# Altium integrated library Renesas Microcontroller H8.IntLib: 489 symbols (part 21 of 25)
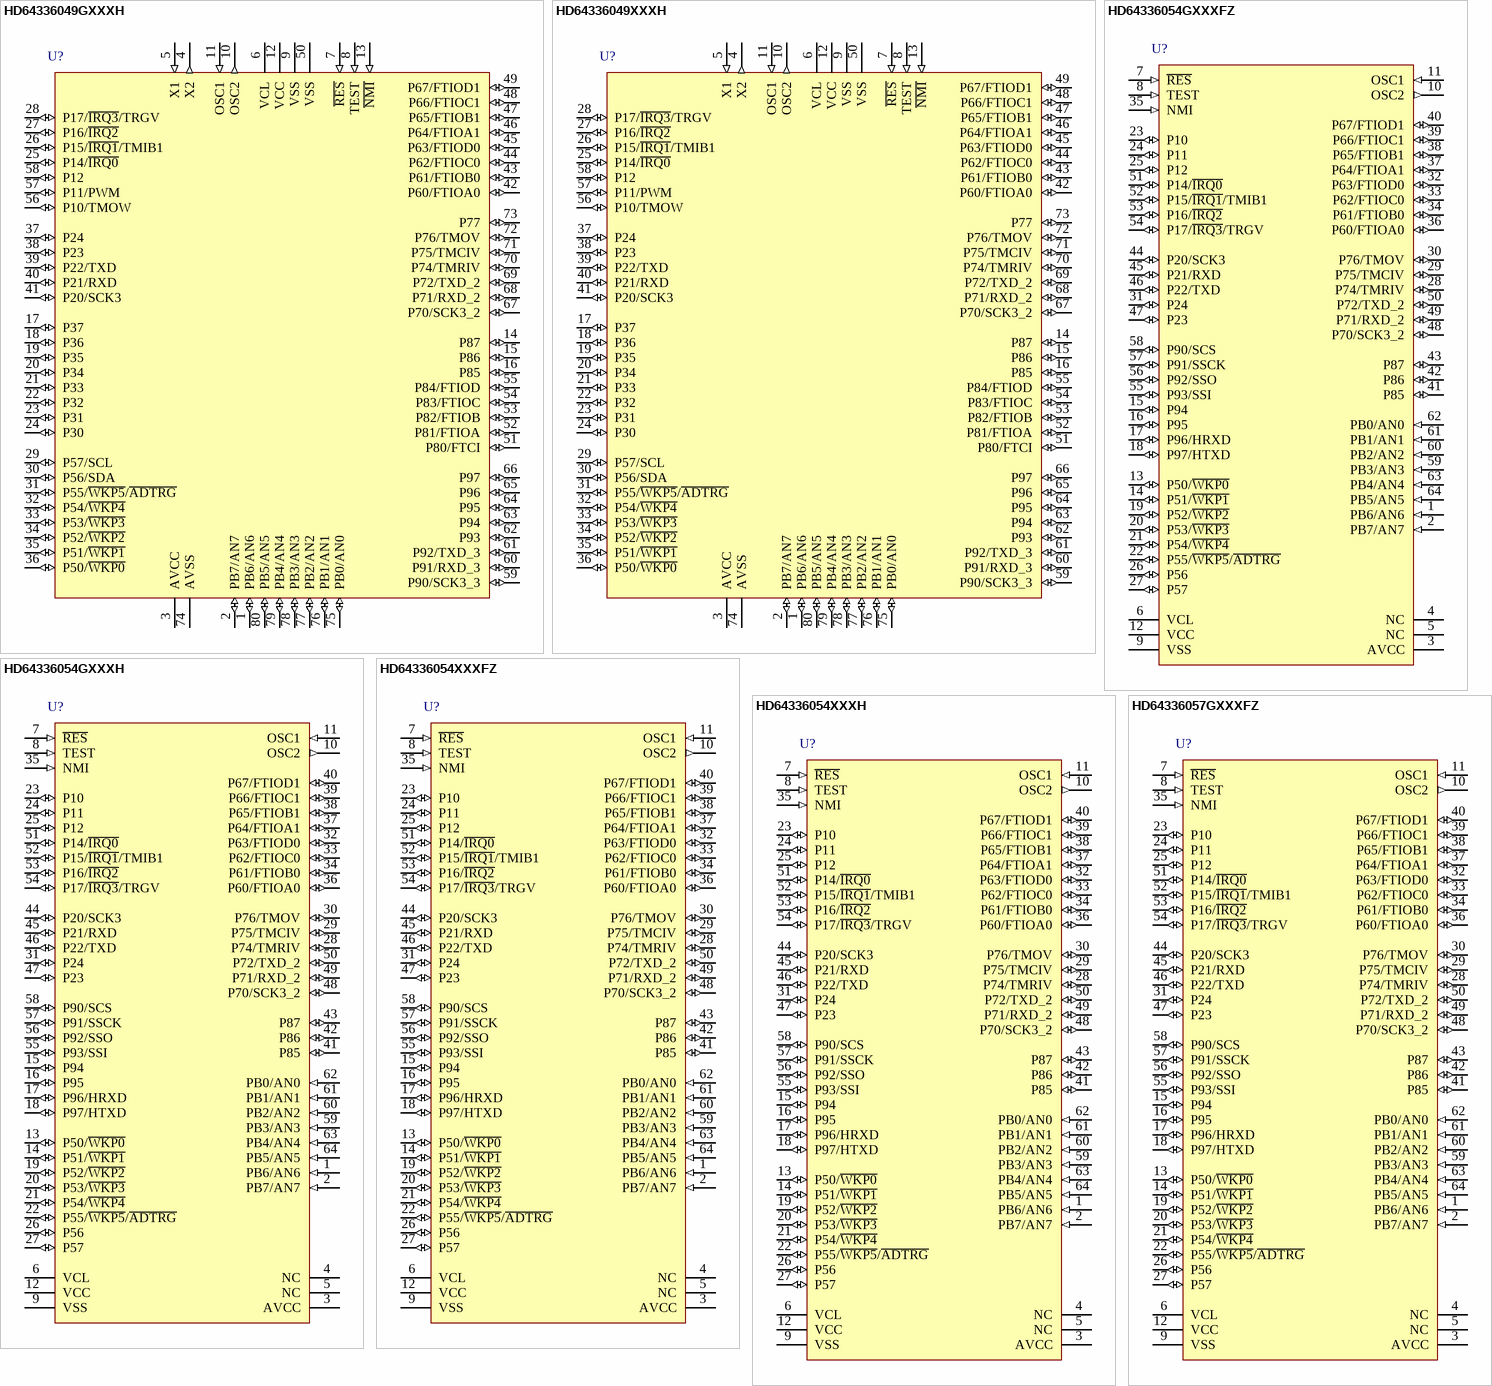
[diagram p108: symbols HD64336049GXXXH to HD64336057GXXXFZ]

## HD64336054GXXXH
designator U?
H8 Family 32/16-bit CISC, H8/300H Tiny, 32K ROM, 2K RAM, 1 to 10MHz, 2.7 to 5.5V, 64-Pin QFP; Published: 28-Aug-2009; DatasheetVersion: Rev.4.00, Mar-2006; PackageVersion: Sep-2005; PackageReference: PRQP0064GB-A; Publisher: Altium Limited; PackageDescription: 64-Pin Plastic Quad Flat Pack, 14 x 14 x 2.7 mm Body, 0.8 mm Pitch; Code_JEITA: P-QFP64-14x14-0.80; ComponentLink1Description: Manufacturer Link; ComponentLink1URL: http://sg.renesas.com/fmwk.jsp?cnt=h8_family_landing.jsp&fp=/products/mpumcu/h8_family/; ComponentLink2Description: Datasheet; ComponentLink2URL: http://documentation.renesas.com/eng/products/mpumcu/rej09b0026_h836057.pdf; ComponentLink3Description: Packaging Specification; ComponentLink3URL: http://sg.renesas.com/media/products/common_info/package/pdf/ic/code/prqp0064gb_a.pdf
footprint PRQP0064GB-A_N (QFP, 64-Leads, Body 14x14mm, Pitch 0.8mm, IPC Medium Density)
footprint PRQP0064GB-A_L (QFP, 64-Leads, Body 14x14mm, Pitch 0.8mm, IPC High Density)
footprint PRQP0064GB-A_M (QFP, 64-Leads, Body 14x14mm, Pitch 0.8mm, IPC Low Density)
pins: 1 PB6/AN6 (in), 2 PB7/AN7 (in), 3 AVCC (power), 4 NC, 5 NC, 6 VCL (power), 7 ~{RES} (in), 8 TEST (in), 9 VSS (power), 10 OSC2 (out), 11 OSC1 (in), 12 VCC (power), 13 P50/~{WKP0} (io), 14 P51/~{WKP1} (io), 15 P94 (io), 16 P95 (io), 17 P96/HRXD (io), 18 P97/HTXD (io), 19 P52/~{WKP2} (io), 20 P53/~{WKP3} (io), 21 P54/~{WKP4} (io), 22 P55/~{WKP5}/~{ADTRG} (io), 23 P10 (io), 24 P11 (io), 25 P12 (io), 26 P56 (io), 27 P57 (io), 28 P74/TMRIV (io), 29 P75/TMCIV (io), 30 P76/TMOV (io), 31 P24 (io), 32 P63/FTIOD0 (io), 33 P62/FTIOC0 (io), 34 P61/FTIOB0 (io), 35 NMI (in), 36 P60/FTIOA0 (io), 37 P64/FTIOA1 (io), 38 P65/FTIOB1 (io), 39 P66/FTIOC1 (io), 40 P67/FTIOD1 (io), 41 P85 (io), 42 P86 (io), 43 P87 (io), 44 P20/SCK3 (io), 45 P21/RXD (io), 46 P22/TXD (io), 47 P23 (io), 48 P70/SCK3_2 (io), 49 P71/RXD_2 (io), 50 P72/TXD_2 (io), 51 P14/~{IRQ0} (io), 52 P15/~{IRQ1}/TMIB1 (io), 53 P16/~{IRQ2} (io), 54 P17/~{IRQ3}/TRGV (io), 55 P93/SSI (io), 56 P92/SSO (io), 57 P91/SSCK (io), 58 P90/SCS (io), 59 PB3/AN3 (in), 60 PB2/AN2 (in), 61 PB1/AN1 (in), 62 PB0/AN0 (in), 63 PB4/AN4 (in), 64 PB5/AN5 (in)

## HD64336054XXXFZ
designator U?
H8 Family 32/16-bit CISC, H8/300H Tiny, 32K ROM, 2K RAM, 1 to 10MHz, 2.7 to 5.5V, 64-Pin QFP; Published: 28-Aug-2009; DatasheetVersion: Rev.4.00, Mar-2006; PackageVersion: Sep-2005; PackageReference: PLQP0064KB-A; Publisher: Altium Limited; PackageDescription: 64-Pin Plastic Low Profile QFP, 10 x 10 x 1.4 mm Body, 0.5 mm Pitch; Code_JEITA: P-LQFP64-10x10-0.50; Code_IPC: SQFP50P1200X1200-64; ComponentLink1Description: Manufacturer Link; ComponentLink1URL: http://sg.renesas.com/fmwk.jsp?cnt=h8_family_landing.jsp&fp=/products/mpumcu/h8_family/; ComponentLink2Description: Datasheet; ComponentLink2URL: http://documentation.renesas.com/eng/products/mpumcu/rej09b0026_h836057.pdf; ComponentLink3Description: Packaging Specification; ComponentLink3URL: http://sg.renesas.com/media/products/common_info/package/pdf/ic/code/plqp0064kb_a.pdf
footprint PLQP0064KB-A_N (Shrink QFP, 64-Leads, Body 10x10mm, Pitch 0.5mm, IPC Medium Density)
footprint PLQP0064KB-A_L (Shrink QFP, 64-Leads, Body 10x10mm, Pitch 0.5mm, IPC High Density)
footprint PLQP0064KB-A_M (Shrink QFP, 64-Leads, Body 10x10mm, Pitch 0.5mm, IPC Low Density)
pins: 1 PB6/AN6 (in), 2 PB7/AN7 (in), 3 AVCC (power), 4 NC, 5 NC, 6 VCL (power), 7 ~{RES} (in), 8 TEST (in), 9 VSS (power), 10 OSC2 (out), 11 OSC1 (in), 12 VCC (power), 13 P50/~{WKP0} (io), 14 P51/~{WKP1} (io), 15 P94 (io), 16 P95 (io), 17 P96/HRXD (io), 18 P97/HTXD (io), 19 P52/~{WKP2} (io), 20 P53/~{WKP3} (io), 21 P54/~{WKP4} (io), 22 P55/~{WKP5}/~{ADTRG} (io), 23 P10 (io), 24 P11 (io), 25 P12 (io), 26 P56 (io), 27 P57 (io), 28 P74/TMRIV (io), 29 P75/TMCIV (io), 30 P76/TMOV (io), 31 P24 (io), 32 P63/FTIOD0 (io), 33 P62/FTIOC0 (io), 34 P61/FTIOB0 (io), 35 NMI (in), 36 P60/FTIOA0 (io), 37 P64/FTIOA1 (io), 38 P65/FTIOB1 (io), 39 P66/FTIOC1 (io), 40 P67/FTIOD1 (io), 41 P85 (io), 42 P86 (io), 43 P87 (io), 44 P20/SCK3 (io), 45 P21/RXD (io), 46 P22/TXD (io), 47 P23 (io), 48 P70/SCK3_2 (io), 49 P71/RXD_2 (io), 50 P72/TXD_2 (io), 51 P14/~{IRQ0} (io), 52 P15/~{IRQ1}/TMIB1 (io), 53 P16/~{IRQ2} (io), 54 P17/~{IRQ3}/TRGV (io), 55 P93/SSI (io), 56 P92/SSO (io), 57 P91/SSCK (io), 58 P90/SCS (io), 59 PB3/AN3 (in), 60 PB2/AN2 (in), 61 PB1/AN1 (in), 62 PB0/AN0 (in), 63 PB4/AN4 (in), 64 PB5/AN5 (in)

## HD64336054XXXH
designator U?
H8 Family 32/16-bit CISC, H8/300H Tiny, 32K ROM, 2K RAM, 1 to 10MHz, 2.7 to 5.5V, 64-Pin QFP; Published: 28-Aug-2009; DatasheetVersion: Rev.4.00, Mar-2006; PackageVersion: Sep-2005; PackageReference: PRQP0064GB-A; Publisher: Altium Limited; PackageDescription: 64-Pin Plastic Quad Flat Pack, 14 x 14 x 2.7 mm Body, 0.8 mm Pitch; Code_JEITA: P-QFP64-14x14-0.80; ComponentLink1Description: Manufacturer Link; ComponentLink1URL: http://sg.renesas.com/fmwk.jsp?cnt=h8_family_landing.jsp&fp=/products/mpumcu/h8_family/; ComponentLink2Description: Datasheet; ComponentLink2URL: http://documentation.renesas.com/eng/products/mpumcu/rej09b0026_h836057.pdf; ComponentLink3Description: Packaging Specification; ComponentLink3URL: http://sg.renesas.com/media/products/common_info/package/pdf/ic/code/prqp0064gb_a.pdf
footprint PRQP0064GB-A_N (QFP, 64-Leads, Body 14x14mm, Pitch 0.8mm, IPC Medium Density)
footprint PRQP0064GB-A_L (QFP, 64-Leads, Body 14x14mm, Pitch 0.8mm, IPC High Density)
footprint PRQP0064GB-A_M (QFP, 64-Leads, Body 14x14mm, Pitch 0.8mm, IPC Low Density)
pins: 1 PB6/AN6 (in), 2 PB7/AN7 (in), 3 AVCC (power), 4 NC, 5 NC, 6 VCL (power), 7 ~{RES} (in), 8 TEST (in), 9 VSS (power), 10 OSC2 (out), 11 OSC1 (in), 12 VCC (power), 13 P50/~{WKP0} (io), 14 P51/~{WKP1} (io), 15 P94 (io), 16 P95 (io), 17 P96/HRXD (io), 18 P97/HTXD (io), 19 P52/~{WKP2} (io), 20 P53/~{WKP3} (io), 21 P54/~{WKP4} (io), 22 P55/~{WKP5}/~{ADTRG} (io), 23 P10 (io), 24 P11 (io), 25 P12 (io), 26 P56 (io), 27 P57 (io), 28 P74/TMRIV (io), 29 P75/TMCIV (io), 30 P76/TMOV (io), 31 P24 (io), 32 P63/FTIOD0 (io), 33 P62/FTIOC0 (io), 34 P61/FTIOB0 (io), 35 NMI (in), 36 P60/FTIOA0 (io), 37 P64/FTIOA1 (io), 38 P65/FTIOB1 (io), 39 P66/FTIOC1 (io), 40 P67/FTIOD1 (io), 41 P85 (io), 42 P86 (io), 43 P87 (io), 44 P20/SCK3 (io), 45 P21/RXD (io), 46 P22/TXD (io), 47 P23 (io), 48 P70/SCK3_2 (io), 49 P71/RXD_2 (io), 50 P72/TXD_2 (io), 51 P14/~{IRQ0} (io), 52 P15/~{IRQ1}/TMIB1 (io), 53 P16/~{IRQ2} (io), 54 P17/~{IRQ3}/TRGV (io), 55 P93/SSI (io), 56 P92/SSO (io), 57 P91/SSCK (io), 58 P90/SCS (io), 59 PB3/AN3 (in), 60 PB2/AN2 (in), 61 PB1/AN1 (in), 62 PB0/AN0 (in), 63 PB4/AN4 (in), 64 PB5/AN5 (in)

## HD64336057GXXXFZ
designator U?
H8 Family 32/16-bit CISC, H8/300H Tiny, 56K ROM, 2K RAM, 1 to 10MHz, 2.7 to 5.5V, 64-Pin QFP; Published: 28-Aug-2009; DatasheetVersion: Rev.4.00, Mar-2006; PackageVersion: Sep-2005; PackageReference: PLQP0064KB-A; Publisher: Altium Limited; PackageDescription: 64-Pin Plastic Low Profile QFP, 10 x 10 x 1.4 mm Body, 0.5 mm Pitch; Code_JEITA: P-LQFP64-10x10-0.50; Code_IPC: SQFP50P1200X1200-64; ComponentLink1Description: Manufacturer Link; ComponentLink1URL: http://sg.renesas.com/fmwk.jsp?cnt=h8_family_landing.jsp&fp=/products/mpumcu/h8_family/; ComponentLink2Description: Datasheet; ComponentLink2URL: http://documentation.renesas.com/eng/products/mpumcu/rej09b0026_h836057.pdf; ComponentLink3Description: Packaging Specification; ComponentLink3URL: http://sg.renesas.com/media/products/common_info/package/pdf/ic/code/plqp0064kb_a.pdf
footprint PLQP0064KB-A_N (Shrink QFP, 64-Leads, Body 10x10mm, Pitch 0.5mm, IPC Medium Density)
footprint PLQP0064KB-A_L (Shrink QFP, 64-Leads, Body 10x10mm, Pitch 0.5mm, IPC High Density)
footprint PLQP0064KB-A_M (Shrink QFP, 64-Leads, Body 10x10mm, Pitch 0.5mm, IPC Low Density)
pins: 1 PB6/AN6 (in), 2 PB7/AN7 (in), 3 AVCC (power), 4 NC, 5 NC, 6 VCL (power), 7 ~{RES} (in), 8 TEST (in), 9 VSS (power), 10 OSC2 (out), 11 OSC1 (in), 12 VCC (power), 13 P50/~{WKP0} (io), 14 P51/~{WKP1} (io), 15 P94 (io), 16 P95 (io), 17 P96/HRXD (io), 18 P97/HTXD (io), 19 P52/~{WKP2} (io), 20 P53/~{WKP3} (io), 21 P54/~{WKP4} (io), 22 P55/~{WKP5}/~{ADTRG} (io), 23 P10 (io), 24 P11 (io), 25 P12 (io), 26 P56 (io), 27 P57 (io), 28 P74/TMRIV (io), 29 P75/TMCIV (io), 30 P76/TMOV (io), 31 P24 (io), 32 P63/FTIOD0 (io), 33 P62/FTIOC0 (io), 34 P61/FTIOB0 (io), 35 NMI (in), 36 P60/FTIOA0 (io), 37 P64/FTIOA1 (io), 38 P65/FTIOB1 (io), 39 P66/FTIOC1 (io), 40 P67/FTIOD1 (io), 41 P85 (io), 42 P86 (io), 43 P87 (io), 44 P20/SCK3 (io), 45 P21/RXD (io), 46 P22/TXD (io), 47 P23 (io), 48 P70/SCK3_2 (io), 49 P71/RXD_2 (io), 50 P72/TXD_2 (io), 51 P14/~{IRQ0} (io), 52 P15/~{IRQ1}/TMIB1 (io), 53 P16/~{IRQ2} (io), 54 P17/~{IRQ3}/TRGV (io), 55 P93/SSI (io), 56 P92/SSO (io), 57 P91/SSCK (io), 58 P90/SCS (io), 59 PB3/AN3 (in), 60 PB2/AN2 (in), 61 PB1/AN1 (in), 62 PB0/AN0 (in), 63 PB4/AN4 (in), 64 PB5/AN5 (in)

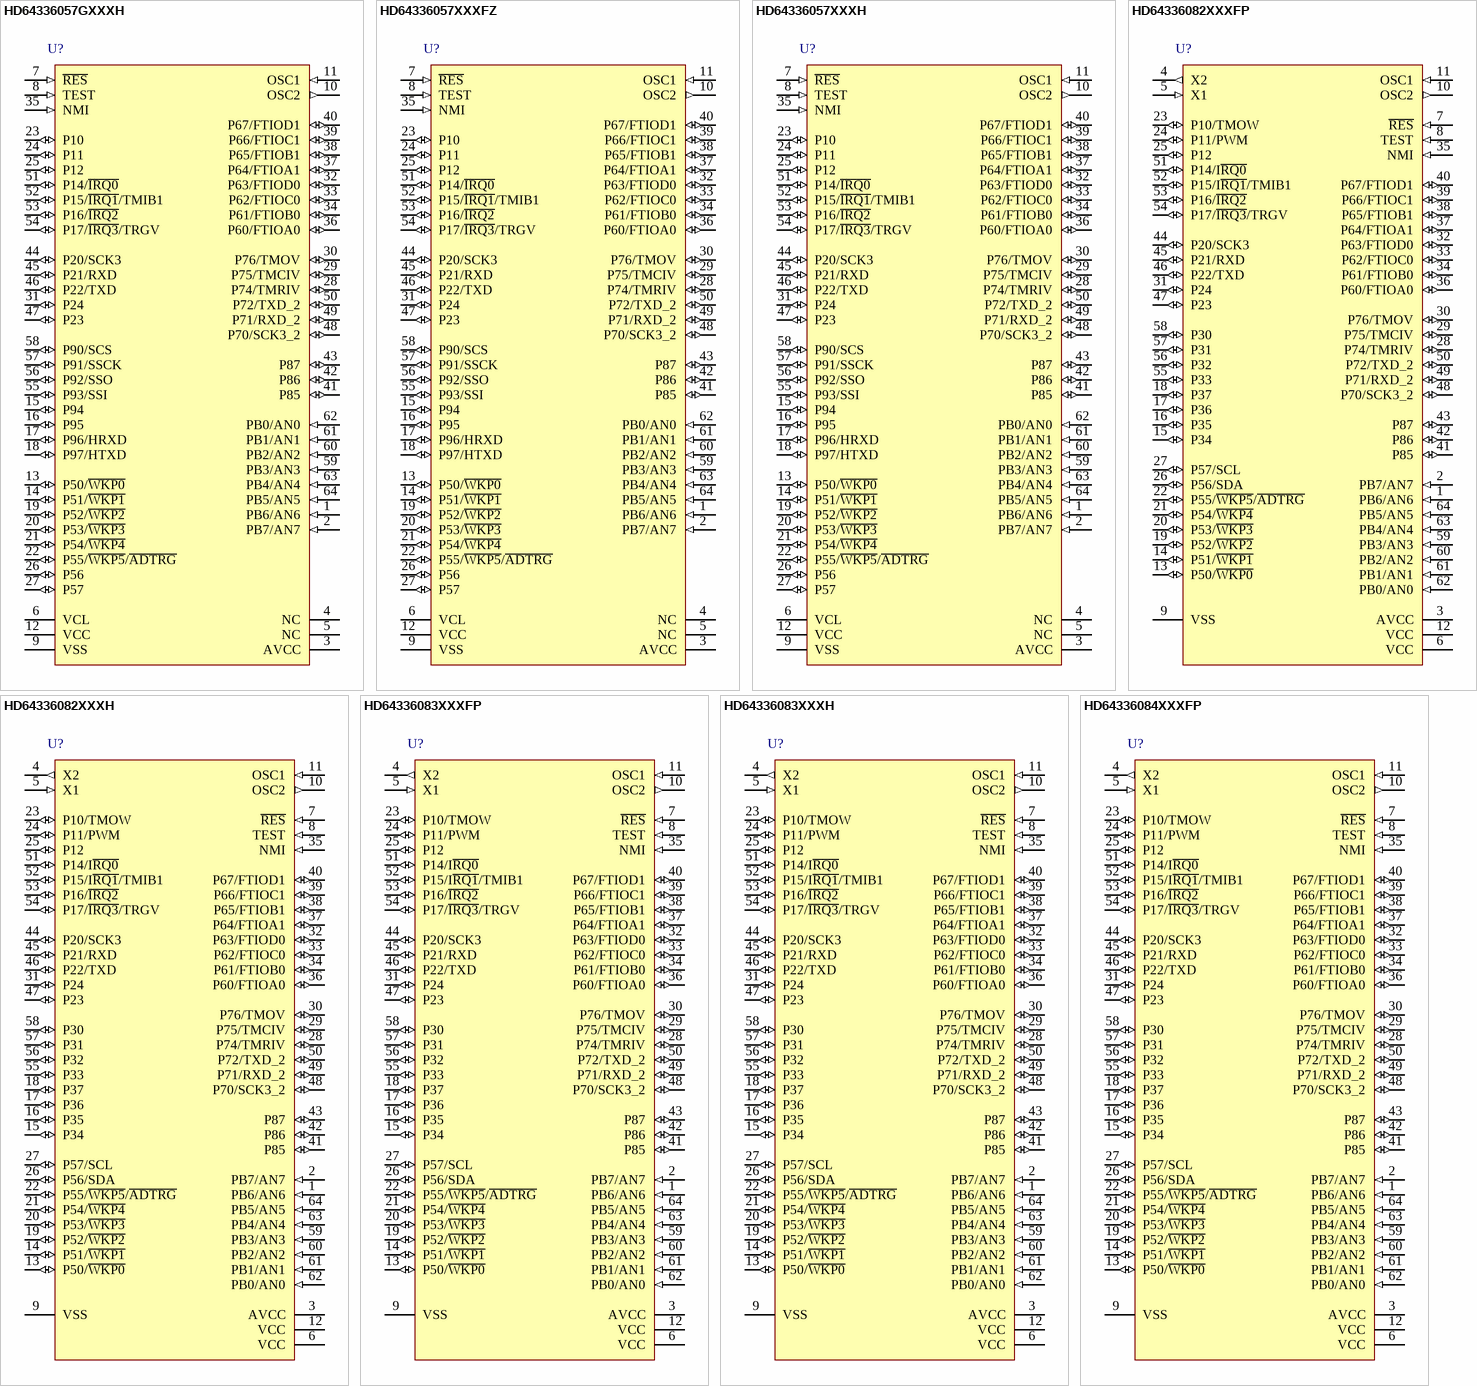
[diagram p73: symbols HD64336057GXXXH to HD64336084XXXFP]

## HD64336057GXXXH
designator U?
H8 Family 32/16-bit CISC, H8/300H Tiny, 56K ROM, 2K RAM, 1 to 10MHz, 2.7 to 5.5V, 64-Pin QFP; Published: 28-Aug-2009; DatasheetVersion: Rev.4.00, Mar-2006; PackageVersion: Sep-2005; PackageReference: PRQP0064GB-A; Publisher: Altium Limited; PackageDescription: 64-Pin Plastic Quad Flat Pack, 14 x 14 x 2.7 mm Body, 0.8 mm Pitch; Code_JEITA: P-QFP64-14x14-0.80; ComponentLink1Description: Manufacturer Link; ComponentLink1URL: http://sg.renesas.com/fmwk.jsp?cnt=h8_family_landing.jsp&fp=/products/mpumcu/h8_family/; ComponentLink2Description: Datasheet; ComponentLink2URL: http://documentation.renesas.com/eng/products/mpumcu/rej09b0026_h836057.pdf; ComponentLink3Description: Packaging Specification; ComponentLink3URL: http://sg.renesas.com/media/products/common_info/package/pdf/ic/code/prqp0064gb_a.pdf
footprint PRQP0064GB-A_N (QFP, 64-Leads, Body 14x14mm, Pitch 0.8mm, IPC Medium Density)
footprint PRQP0064GB-A_L (QFP, 64-Leads, Body 14x14mm, Pitch 0.8mm, IPC High Density)
footprint PRQP0064GB-A_M (QFP, 64-Leads, Body 14x14mm, Pitch 0.8mm, IPC Low Density)
pins: 1 PB6/AN6 (in), 2 PB7/AN7 (in), 3 AVCC (power), 4 NC, 5 NC, 6 VCL (power), 7 ~{RES} (in), 8 TEST (in), 9 VSS (power), 10 OSC2 (out), 11 OSC1 (in), 12 VCC (power), 13 P50/~{WKP0} (io), 14 P51/~{WKP1} (io), 15 P94 (io), 16 P95 (io), 17 P96/HRXD (io), 18 P97/HTXD (io), 19 P52/~{WKP2} (io), 20 P53/~{WKP3} (io), 21 P54/~{WKP4} (io), 22 P55/~{WKP5}/~{ADTRG} (io), 23 P10 (io), 24 P11 (io), 25 P12 (io), 26 P56 (io), 27 P57 (io), 28 P74/TMRIV (io), 29 P75/TMCIV (io), 30 P76/TMOV (io), 31 P24 (io), 32 P63/FTIOD0 (io), 33 P62/FTIOC0 (io), 34 P61/FTIOB0 (io), 35 NMI (in), 36 P60/FTIOA0 (io), 37 P64/FTIOA1 (io), 38 P65/FTIOB1 (io), 39 P66/FTIOC1 (io), 40 P67/FTIOD1 (io), 41 P85 (io), 42 P86 (io), 43 P87 (io), 44 P20/SCK3 (io), 45 P21/RXD (io), 46 P22/TXD (io), 47 P23 (io), 48 P70/SCK3_2 (io), 49 P71/RXD_2 (io), 50 P72/TXD_2 (io), 51 P14/~{IRQ0} (io), 52 P15/~{IRQ1}/TMIB1 (io), 53 P16/~{IRQ2} (io), 54 P17/~{IRQ3}/TRGV (io), 55 P93/SSI (io), 56 P92/SSO (io), 57 P91/SSCK (io), 58 P90/SCS (io), 59 PB3/AN3 (in), 60 PB2/AN2 (in), 61 PB1/AN1 (in), 62 PB0/AN0 (in), 63 PB4/AN4 (in), 64 PB5/AN5 (in)

## HD64336057XXXFZ
designator U?
H8 Family 32/16-bit CISC, H8/300H Tiny, 56K ROM, 2K RAM, 1 to 10MHz, 2.7 to 5.5V, 64-Pin QFP; Published: 28-Aug-2009; DatasheetVersion: Rev.4.00, Mar-2006; PackageVersion: Sep-2005; PackageReference: PLQP0064KB-A; Publisher: Altium Limited; PackageDescription: 64-Pin Plastic Low Profile QFP, 10 x 10 x 1.4 mm Body, 0.5 mm Pitch; Code_JEITA: P-LQFP64-10x10-0.50; Code_IPC: SQFP50P1200X1200-64; ComponentLink1Description: Manufacturer Link; ComponentLink1URL: http://sg.renesas.com/fmwk.jsp?cnt=h8_family_landing.jsp&fp=/products/mpumcu/h8_family/; ComponentLink2Description: Datasheet; ComponentLink2URL: http://documentation.renesas.com/eng/products/mpumcu/rej09b0026_h836057.pdf; ComponentLink3Description: Packaging Specification; ComponentLink3URL: http://sg.renesas.com/media/products/common_info/package/pdf/ic/code/plqp0064kb_a.pdf
footprint PLQP0064KB-A_N (Shrink QFP, 64-Leads, Body 10x10mm, Pitch 0.5mm, IPC Medium Density)
footprint PLQP0064KB-A_L (Shrink QFP, 64-Leads, Body 10x10mm, Pitch 0.5mm, IPC High Density)
footprint PLQP0064KB-A_M (Shrink QFP, 64-Leads, Body 10x10mm, Pitch 0.5mm, IPC Low Density)
pins: 1 PB6/AN6 (in), 2 PB7/AN7 (in), 3 AVCC (power), 4 NC, 5 NC, 6 VCL (power), 7 ~{RES} (in), 8 TEST (in), 9 VSS (power), 10 OSC2 (out), 11 OSC1 (in), 12 VCC (power), 13 P50/~{WKP0} (io), 14 P51/~{WKP1} (io), 15 P94 (io), 16 P95 (io), 17 P96/HRXD (io), 18 P97/HTXD (io), 19 P52/~{WKP2} (io), 20 P53/~{WKP3} (io), 21 P54/~{WKP4} (io), 22 P55/~{WKP5}/~{ADTRG} (io), 23 P10 (io), 24 P11 (io), 25 P12 (io), 26 P56 (io), 27 P57 (io), 28 P74/TMRIV (io), 29 P75/TMCIV (io), 30 P76/TMOV (io), 31 P24 (io), 32 P63/FTIOD0 (io), 33 P62/FTIOC0 (io), 34 P61/FTIOB0 (io), 35 NMI (in), 36 P60/FTIOA0 (io), 37 P64/FTIOA1 (io), 38 P65/FTIOB1 (io), 39 P66/FTIOC1 (io), 40 P67/FTIOD1 (io), 41 P85 (io), 42 P86 (io), 43 P87 (io), 44 P20/SCK3 (io), 45 P21/RXD (io), 46 P22/TXD (io), 47 P23 (io), 48 P70/SCK3_2 (io), 49 P71/RXD_2 (io), 50 P72/TXD_2 (io), 51 P14/~{IRQ0} (io), 52 P15/~{IRQ1}/TMIB1 (io), 53 P16/~{IRQ2} (io), 54 P17/~{IRQ3}/TRGV (io), 55 P93/SSI (io), 56 P92/SSO (io), 57 P91/SSCK (io), 58 P90/SCS (io), 59 PB3/AN3 (in), 60 PB2/AN2 (in), 61 PB1/AN1 (in), 62 PB0/AN0 (in), 63 PB4/AN4 (in), 64 PB5/AN5 (in)

## HD64336057XXXH
designator U?
H8 Family 32/16-bit CISC, H8/300H Tiny, 56K ROM, 2K RAM, 1 to 10MHz, 2.7 to 5.5V, 64-Pin QFP; Published: 28-Aug-2009; DatasheetVersion: Rev.4.00, Mar-2006; PackageVersion: Sep-2005; PackageReference: PRQP0064GB-A; Publisher: Altium Limited; PackageDescription: 64-Pin Plastic Quad Flat Pack, 14 x 14 x 2.7 mm Body, 0.8 mm Pitch; Code_JEITA: P-QFP64-14x14-0.80; ComponentLink1Description: Manufacturer Link; ComponentLink1URL: http://sg.renesas.com/fmwk.jsp?cnt=h8_family_landing.jsp&fp=/products/mpumcu/h8_family/; ComponentLink2Description: Datasheet; ComponentLink2URL: http://documentation.renesas.com/eng/products/mpumcu/rej09b0026_h836057.pdf; ComponentLink3Description: Packaging Specification; ComponentLink3URL: http://sg.renesas.com/media/products/common_info/package/pdf/ic/code/prqp0064gb_a.pdf
footprint PRQP0064GB-A_N (QFP, 64-Leads, Body 14x14mm, Pitch 0.8mm, IPC Medium Density)
footprint PRQP0064GB-A_L (QFP, 64-Leads, Body 14x14mm, Pitch 0.8mm, IPC High Density)
footprint PRQP0064GB-A_M (QFP, 64-Leads, Body 14x14mm, Pitch 0.8mm, IPC Low Density)
pins: 1 PB6/AN6 (in), 2 PB7/AN7 (in), 3 AVCC (power), 4 NC, 5 NC, 6 VCL (power), 7 ~{RES} (in), 8 TEST (in), 9 VSS (power), 10 OSC2 (out), 11 OSC1 (in), 12 VCC (power), 13 P50/~{WKP0} (io), 14 P51/~{WKP1} (io), 15 P94 (io), 16 P95 (io), 17 P96/HRXD (io), 18 P97/HTXD (io), 19 P52/~{WKP2} (io), 20 P53/~{WKP3} (io), 21 P54/~{WKP4} (io), 22 P55/~{WKP5}/~{ADTRG} (io), 23 P10 (io), 24 P11 (io), 25 P12 (io), 26 P56 (io), 27 P57 (io), 28 P74/TMRIV (io), 29 P75/TMCIV (io), 30 P76/TMOV (io), 31 P24 (io), 32 P63/FTIOD0 (io), 33 P62/FTIOC0 (io), 34 P61/FTIOB0 (io), 35 NMI (in), 36 P60/FTIOA0 (io), 37 P64/FTIOA1 (io), 38 P65/FTIOB1 (io), 39 P66/FTIOC1 (io), 40 P67/FTIOD1 (io), 41 P85 (io), 42 P86 (io), 43 P87 (io), 44 P20/SCK3 (io), 45 P21/RXD (io), 46 P22/TXD (io), 47 P23 (io), 48 P70/SCK3_2 (io), 49 P71/RXD_2 (io), 50 P72/TXD_2 (io), 51 P14/~{IRQ0} (io), 52 P15/~{IRQ1}/TMIB1 (io), 53 P16/~{IRQ2} (io), 54 P17/~{IRQ3}/TRGV (io), 55 P93/SSI (io), 56 P92/SSO (io), 57 P91/SSCK (io), 58 P90/SCS (io), 59 PB3/AN3 (in), 60 PB2/AN2 (in), 61 PB1/AN1 (in), 62 PB0/AN0 (in), 63 PB4/AN4 (in), 64 PB5/AN5 (in)

## HD64336082XXXFP
designator U?
H8 Family 32/16-bit CISC, H8/300H Tiny, 16K ROM, 3K RAM, 4 to 18MHz, 3.0 to 3.6V, 64-Pin QFP; Published: 28-Aug-2009; DatasheetVersion: Rev.2.00, Sep-2005; PackageVersion: Sep-2005; PackageReference: PLQP0064KC-A; Publisher: Altium Limited; PackageDescription: 64-Pin Plastic Low Profile QFP, 10 x 10 x 1.45 mm Body, 0.5 mm Pitch; Code_JEITA: P-LQFP64-10x10-0.50; Code_IPC: SQFP50P1200X1200-64; ComponentLink1Description: Manufacturer Link; ComponentLink1URL: http://sg.renesas.com/fmwk.jsp?cnt=h8_family_landing.jsp&fp=/products/mpumcu/h8_family/; ComponentLink2Description: Datasheet; ComponentLink2URL: http://documentation.renesas.com/eng/products/mpumcu/rej09b0160_h836087.pdf; ComponentLink3Description: Packaging Specification; ComponentLink3URL: http://sg.renesas.com/media/products/common_info/package/pdf/ic/code/plqp0064kc_a.pdf
footprint PLQP0064KC-A_N (Shrink QFP, 64-Leads, Body 10x10mm, Pitch 0.5mm, IPC Medium Density)
footprint PLQP0064KC-A_L (Shrink QFP, 64-Leads, Body 10x10mm, Pitch 0.5mm, IPC High Density)
footprint PLQP0064KC-A_M (Shrink QFP, 64-Leads, Body 10x10mm, Pitch 0.5mm, IPC Low Density)
pins: 1 PB6/AN6 (in), 2 PB7/AN7 (in), 3 AVCC (power), 4 X2 (out), 5 X1 (in), 6 VCC (power), 7 ~{RES} (in), 8 TEST (in), 9 VSS (power), 10 OSC2 (out), 11 OSC1 (in), 12 VCC (power), 13 P50/~{WKP0} (io), 14 P51/~{WKP1} (io), 15 P34 (io), 16 P35 (io), 17 P36 (io), 18 P37 (io), 19 P52/~{WKP2} (io), 20 P53/~{WKP3} (io), 21 P54/~{WKP4} (io), 22 P55/~{WKP5}/~{ADTRG} (io), 23 P10/TMOW (io), 24 P11/PWM (io), 25 P12 (io), 26 P56/SDA (io), 27 P57/SCL (io), 28 P74/TMRIV (io), 29 P75/TMCIV (io), 30 P76/TMOV (io), 31 P24 (io), 32 P63/FTIOD0 (io), 33 P62/FTIOC0 (io), 34 P61/FTIOB0 (io), 35 NMI (in), 36 P60/FTIOA0 (io), 37 P64/FTIOA1 (io), 38 P65/FTIOB1 (io), 39 P66/FTIOC1 (io), 40 P67/FTIOD1 (io), 41 P85 (io), 42 P86 (io), 43 P87 (io), 44 P20/SCK3 (io), 45 P21/RXD (io), 46 P22/TXD (io), 47 P23 (io), 48 P70/SCK3_2 (io), 49 P71/RXD_2 (io), 50 P72/TXD_2 (io), 51 P14/I~{RQ0} (io), 52 P15/I~{RQ1}/TMIB1 (io), 53 P16/~{IRQ2} (io), 54 P17/~{IRQ3}/TRGV (io), 55 P33 (io), 56 P32 (io), 57 P31 (io), 58 P30 (io), 59 PB3/AN3 (in), 60 PB2/AN2 (in), 61 PB1/AN1 (in), 62 PB0/AN0 (in), 63 PB4/AN4 (in), 64 PB5/AN5 (in)

## HD64336082XXXH
designator U?
H8 Family 32/16-bit CISC, H8/300H Tiny, 16K ROM, 3K RAM, 4 to 18MHz, 3.0 to 3.6V, 64-Pin QFP; Published: 28-Aug-2009; DatasheetVersion: Rev.2.00, Sep-2005; PackageVersion: Sep-2005; PackageReference: PRQP0064GB-A; Publisher: Altium Limited; PackageDescription: 64-Pin Plastic Quad Flat Pack, 14 x 14 x 2.7 mm Body, 0.8 mm Pitch; Code_JEITA: P-QFP64-14x14-0.80; ComponentLink1Description: Manufacturer Link; ComponentLink1URL: http://sg.renesas.com/fmwk.jsp?cnt=h8_family_landing.jsp&fp=/products/mpumcu/h8_family/; ComponentLink2Description: Datasheet; ComponentLink2URL: http://documentation.renesas.com/eng/products/mpumcu/rej09b0160_h836087.pdf; ComponentLink3Description: Packaging Specification; ComponentLink3URL: http://sg.renesas.com/media/products/common_info/package/pdf/ic/code/prqp0064gb_a.pdf
footprint PRQP0064GB-A_N (QFP, 64-Leads, Body 14x14mm, Pitch 0.8mm, IPC Medium Density)
footprint PRQP0064GB-A_L (QFP, 64-Leads, Body 14x14mm, Pitch 0.8mm, IPC High Density)
footprint PRQP0064GB-A_M (QFP, 64-Leads, Body 14x14mm, Pitch 0.8mm, IPC Low Density)
pins: 1 PB6/AN6 (in), 2 PB7/AN7 (in), 3 AVCC (power), 4 X2 (out), 5 X1 (in), 6 VCC (power), 7 ~{RES} (in), 8 TEST (in), 9 VSS (power), 10 OSC2 (out), 11 OSC1 (in), 12 VCC (power), 13 P50/~{WKP0} (io), 14 P51/~{WKP1} (io), 15 P34 (io), 16 P35 (io), 17 P36 (io), 18 P37 (io), 19 P52/~{WKP2} (io), 20 P53/~{WKP3} (io), 21 P54/~{WKP4} (io), 22 P55/~{WKP5}/~{ADTRG} (io), 23 P10/TMOW (io), 24 P11/PWM (io), 25 P12 (io), 26 P56/SDA (io), 27 P57/SCL (io), 28 P74/TMRIV (io), 29 P75/TMCIV (io), 30 P76/TMOV (io), 31 P24 (io), 32 P63/FTIOD0 (io), 33 P62/FTIOC0 (io), 34 P61/FTIOB0 (io), 35 NMI (in), 36 P60/FTIOA0 (io), 37 P64/FTIOA1 (io), 38 P65/FTIOB1 (io), 39 P66/FTIOC1 (io), 40 P67/FTIOD1 (io), 41 P85 (io), 42 P86 (io), 43 P87 (io), 44 P20/SCK3 (io), 45 P21/RXD (io), 46 P22/TXD (io), 47 P23 (io), 48 P70/SCK3_2 (io), 49 P71/RXD_2 (io), 50 P72/TXD_2 (io), 51 P14/I~{RQ0} (io), 52 P15/I~{RQ1}/TMIB1 (io), 53 P16/~{IRQ2} (io), 54 P17/~{IRQ3}/TRGV (io), 55 P33 (io), 56 P32 (io), 57 P31 (io), 58 P30 (io), 59 PB3/AN3 (in), 60 PB2/AN2 (in), 61 PB1/AN1 (in), 62 PB0/AN0 (in), 63 PB4/AN4 (in), 64 PB5/AN5 (in)

## HD64336083XXXFP
designator U?
H8 Family 32/16-bit CISC, H8/300H Tiny, 24K ROM, 3K RAM, 4 to 18MHz, 3.0 to 3.6V, 64-Pin QFP; Published: 28-Aug-2009; DatasheetVersion: Rev.2.00, Sep-2005; PackageVersion: Sep-2005; PackageReference: PLQP0064KC-A; Publisher: Altium Limited; PackageDescription: 64-Pin Plastic Low Profile QFP, 10 x 10 x 1.45 mm Body, 0.5 mm Pitch; Code_JEITA: P-LQFP64-10x10-0.50; Code_IPC: SQFP50P1200X1200-64; ComponentLink1Description: Manufacturer Link; ComponentLink1URL: http://sg.renesas.com/fmwk.jsp?cnt=h8_family_landing.jsp&fp=/products/mpumcu/h8_family/; ComponentLink2Description: Datasheet; ComponentLink2URL: http://documentation.renesas.com/eng/products/mpumcu/rej09b0160_h836087.pdf; ComponentLink3Description: Packaging Specification; ComponentLink3URL: http://sg.renesas.com/media/products/common_info/package/pdf/ic/code/plqp0064kc_a.pdf
footprint PLQP0064KC-A_N (Shrink QFP, 64-Leads, Body 10x10mm, Pitch 0.5mm, IPC Medium Density)
footprint PLQP0064KC-A_L (Shrink QFP, 64-Leads, Body 10x10mm, Pitch 0.5mm, IPC High Density)
footprint PLQP0064KC-A_M (Shrink QFP, 64-Leads, Body 10x10mm, Pitch 0.5mm, IPC Low Density)
pins: 1 PB6/AN6 (in), 2 PB7/AN7 (in), 3 AVCC (power), 4 X2 (out), 5 X1 (in), 6 VCC (power), 7 ~{RES} (in), 8 TEST (in), 9 VSS (power), 10 OSC2 (out), 11 OSC1 (in), 12 VCC (power), 13 P50/~{WKP0} (io), 14 P51/~{WKP1} (io), 15 P34 (io), 16 P35 (io), 17 P36 (io), 18 P37 (io), 19 P52/~{WKP2} (io), 20 P53/~{WKP3} (io), 21 P54/~{WKP4} (io), 22 P55/~{WKP5}/~{ADTRG} (io), 23 P10/TMOW (io), 24 P11/PWM (io), 25 P12 (io), 26 P56/SDA (io), 27 P57/SCL (io), 28 P74/TMRIV (io), 29 P75/TMCIV (io), 30 P76/TMOV (io), 31 P24 (io), 32 P63/FTIOD0 (io), 33 P62/FTIOC0 (io), 34 P61/FTIOB0 (io), 35 NMI (in), 36 P60/FTIOA0 (io), 37 P64/FTIOA1 (io), 38 P65/FTIOB1 (io), 39 P66/FTIOC1 (io), 40 P67/FTIOD1 (io), 41 P85 (io), 42 P86 (io), 43 P87 (io), 44 P20/SCK3 (io), 45 P21/RXD (io), 46 P22/TXD (io), 47 P23 (io), 48 P70/SCK3_2 (io), 49 P71/RXD_2 (io), 50 P72/TXD_2 (io), 51 P14/I~{RQ0} (io), 52 P15/I~{RQ1}/TMIB1 (io), 53 P16/~{IRQ2} (io), 54 P17/~{IRQ3}/TRGV (io), 55 P33 (io), 56 P32 (io), 57 P31 (io), 58 P30 (io), 59 PB3/AN3 (in), 60 PB2/AN2 (in), 61 PB1/AN1 (in), 62 PB0/AN0 (in), 63 PB4/AN4 (in), 64 PB5/AN5 (in)

## HD64336083XXXH
designator U?
H8 Family 32/16-bit CISC, H8/300H Tiny, 24K ROM, 3K RAM, 4 to 18MHz, 3.0 to 3.6V, 64-Pin QFP; Published: 28-Aug-2009; DatasheetVersion: Rev.2.00, Sep-2005; PackageVersion: Sep-2005; PackageReference: PRQP0064GB-A; Publisher: Altium Limited; PackageDescription: 64-Pin Plastic Quad Flat Pack, 14 x 14 x 2.7 mm Body, 0.8 mm Pitch; Code_JEITA: P-QFP64-14x14-0.80; ComponentLink1Description: Manufacturer Link; ComponentLink1URL: http://sg.renesas.com/fmwk.jsp?cnt=h8_family_landing.jsp&fp=/products/mpumcu/h8_family/; ComponentLink2Description: Datasheet; ComponentLink2URL: http://documentation.renesas.com/eng/products/mpumcu/rej09b0160_h836087.pdf; ComponentLink3Description: Packaging Specification; ComponentLink3URL: http://sg.renesas.com/media/products/common_info/package/pdf/ic/code/prqp0064gb_a.pdf
footprint PRQP0064GB-A_N (QFP, 64-Leads, Body 14x14mm, Pitch 0.8mm, IPC Medium Density)
footprint PRQP0064GB-A_L (QFP, 64-Leads, Body 14x14mm, Pitch 0.8mm, IPC High Density)
footprint PRQP0064GB-A_M (QFP, 64-Leads, Body 14x14mm, Pitch 0.8mm, IPC Low Density)
pins: 1 PB6/AN6 (in), 2 PB7/AN7 (in), 3 AVCC (power), 4 X2 (out), 5 X1 (in), 6 VCC (power), 7 ~{RES} (in), 8 TEST (in), 9 VSS (power), 10 OSC2 (out), 11 OSC1 (in), 12 VCC (power), 13 P50/~{WKP0} (io), 14 P51/~{WKP1} (io), 15 P34 (io), 16 P35 (io), 17 P36 (io), 18 P37 (io), 19 P52/~{WKP2} (io), 20 P53/~{WKP3} (io), 21 P54/~{WKP4} (io), 22 P55/~{WKP5}/~{ADTRG} (io), 23 P10/TMOW (io), 24 P11/PWM (io), 25 P12 (io), 26 P56/SDA (io), 27 P57/SCL (io), 28 P74/TMRIV (io), 29 P75/TMCIV (io), 30 P76/TMOV (io), 31 P24 (io), 32 P63/FTIOD0 (io), 33 P62/FTIOC0 (io), 34 P61/FTIOB0 (io), 35 NMI (in), 36 P60/FTIOA0 (io), 37 P64/FTIOA1 (io), 38 P65/FTIOB1 (io), 39 P66/FTIOC1 (io), 40 P67/FTIOD1 (io), 41 P85 (io), 42 P86 (io), 43 P87 (io), 44 P20/SCK3 (io), 45 P21/RXD (io), 46 P22/TXD (io), 47 P23 (io), 48 P70/SCK3_2 (io), 49 P71/RXD_2 (io), 50 P72/TXD_2 (io), 51 P14/I~{RQ0} (io), 52 P15/I~{RQ1}/TMIB1 (io), 53 P16/~{IRQ2} (io), 54 P17/~{IRQ3}/TRGV (io), 55 P33 (io), 56 P32 (io), 57 P31 (io), 58 P30 (io), 59 PB3/AN3 (in), 60 PB2/AN2 (in), 61 PB1/AN1 (in), 62 PB0/AN0 (in), 63 PB4/AN4 (in), 64 PB5/AN5 (in)

## HD64336084XXXFP
designator U?
H8 Family 32/16-bit CISC, H8/300H Tiny, 32K ROM, 3K RAM, 4 to 18MHz, 3.0 to 3.6V, 64-Pin QFP; Published: 28-Aug-2009; DatasheetVersion: Rev.2.00, Sep-2005; PackageVersion: Sep-2005; PackageReference: PLQP0064KC-A; Publisher: Altium Limited; PackageDescription: 64-Pin Plastic Low Profile QFP, 10 x 10 x 1.45 mm Body, 0.5 mm Pitch; Code_JEITA: P-LQFP64-10x10-0.50; Code_IPC: SQFP50P1200X1200-64; ComponentLink1Description: Manufacturer Link; ComponentLink1URL: http://sg.renesas.com/fmwk.jsp?cnt=h8_family_landing.jsp&fp=/products/mpumcu/h8_family/; ComponentLink2Description: Datasheet; ComponentLink2URL: http://documentation.renesas.com/eng/products/mpumcu/rej09b0160_h836087.pdf; ComponentLink3Description: Packaging Specification; ComponentLink3URL: http://sg.renesas.com/media/products/common_info/package/pdf/ic/code/plqp0064kc_a.pdf
footprint PLQP0064KC-A_N (Shrink QFP, 64-Leads, Body 10x10mm, Pitch 0.5mm, IPC Medium Density)
footprint PLQP0064KC-A_L (Shrink QFP, 64-Leads, Body 10x10mm, Pitch 0.5mm, IPC High Density)
footprint PLQP0064KC-A_M (Shrink QFP, 64-Leads, Body 10x10mm, Pitch 0.5mm, IPC Low Density)
pins: 1 PB6/AN6 (in), 2 PB7/AN7 (in), 3 AVCC (power), 4 X2 (out), 5 X1 (in), 6 VCC (power), 7 ~{RES} (in), 8 TEST (in), 9 VSS (power), 10 OSC2 (out), 11 OSC1 (in), 12 VCC (power), 13 P50/~{WKP0} (io), 14 P51/~{WKP1} (io), 15 P34 (io), 16 P35 (io), 17 P36 (io), 18 P37 (io), 19 P52/~{WKP2} (io), 20 P53/~{WKP3} (io), 21 P54/~{WKP4} (io), 22 P55/~{WKP5}/~{ADTRG} (io), 23 P10/TMOW (io), 24 P11/PWM (io), 25 P12 (io), 26 P56/SDA (io), 27 P57/SCL (io), 28 P74/TMRIV (io), 29 P75/TMCIV (io), 30 P76/TMOV (io), 31 P24 (io), 32 P63/FTIOD0 (io), 33 P62/FTIOC0 (io), 34 P61/FTIOB0 (io), 35 NMI (in), 36 P60/FTIOA0 (io), 37 P64/FTIOA1 (io), 38 P65/FTIOB1 (io), 39 P66/FTIOC1 (io), 40 P67/FTIOD1 (io), 41 P85 (io), 42 P86 (io), 43 P87 (io), 44 P20/SCK3 (io), 45 P21/RXD (io), 46 P22/TXD (io), 47 P23 (io), 48 P70/SCK3_2 (io), 49 P71/RXD_2 (io), 50 P72/TXD_2 (io), 51 P14/I~{RQ0} (io), 52 P15/I~{RQ1}/TMIB1 (io), 53 P16/~{IRQ2} (io), 54 P17/~{IRQ3}/TRGV (io), 55 P33 (io), 56 P32 (io), 57 P31 (io), 58 P30 (io), 59 PB3/AN3 (in), 60 PB2/AN2 (in), 61 PB1/AN1 (in), 62 PB0/AN0 (in), 63 PB4/AN4 (in), 64 PB5/AN5 (in)

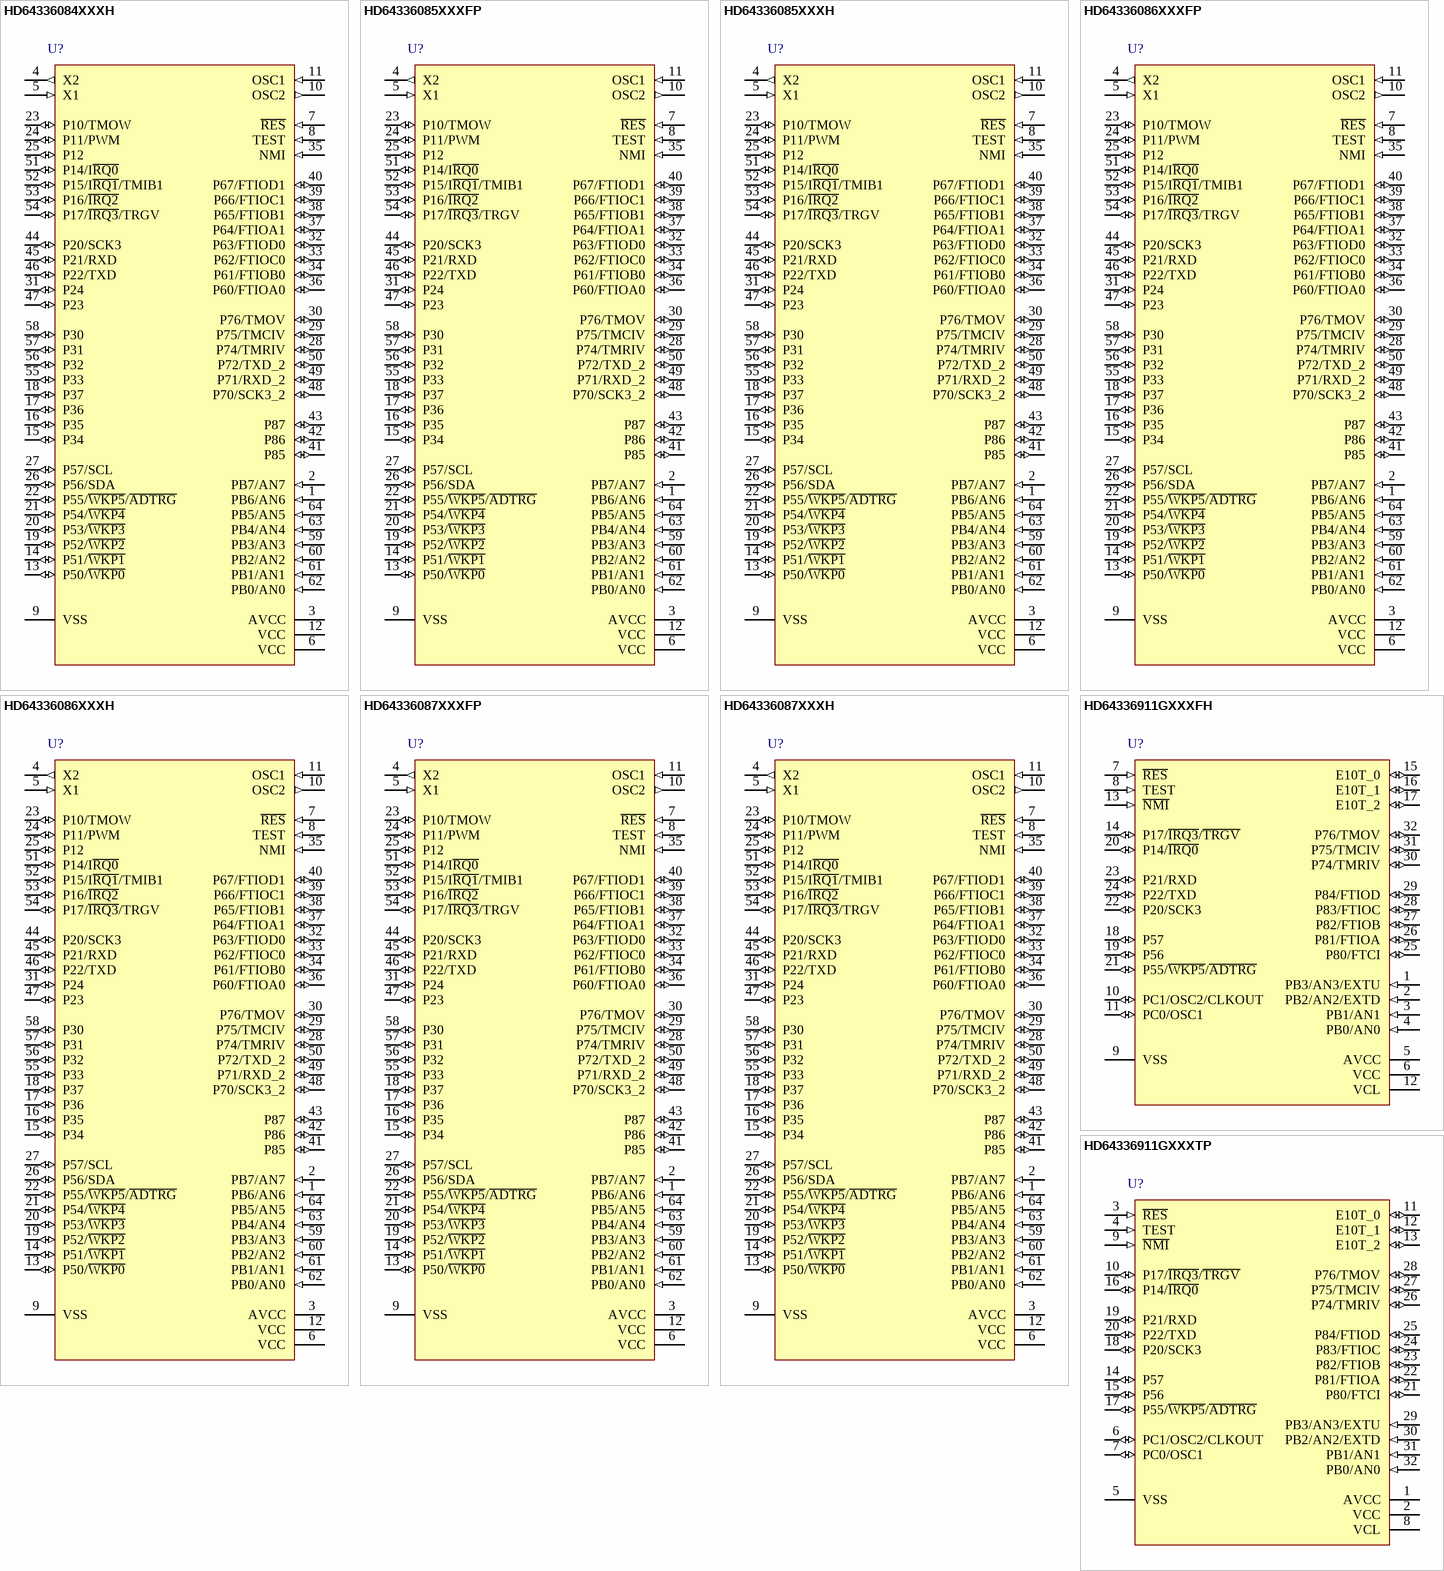
[diagram p74: symbols HD64336084XXXH to HD64336911GXXXTP]

## HD64336084XXXH
designator U?
H8 Family 32/16-bit CISC, H8/300H Tiny, 32K ROM, 3K RAM, 4 to 18MHz, 3.0 to 3.6V, 64-Pin QFP; Published: 28-Aug-2009; DatasheetVersion: Rev.2.00, Sep-2005; PackageVersion: Sep-2005; PackageReference: PRQP0064GB-A; Publisher: Altium Limited; PackageDescription: 64-Pin Plastic Quad Flat Pack, 14 x 14 x 2.7 mm Body, 0.8 mm Pitch; Code_JEITA: P-QFP64-14x14-0.80; ComponentLink1Description: Manufacturer Link; ComponentLink1URL: http://sg.renesas.com/fmwk.jsp?cnt=h8_family_landing.jsp&fp=/products/mpumcu/h8_family/; ComponentLink2Description: Datasheet; ComponentLink2URL: http://documentation.renesas.com/eng/products/mpumcu/rej09b0160_h836087.pdf; ComponentLink3Description: Packaging Specification; ComponentLink3URL: http://sg.renesas.com/media/products/common_info/package/pdf/ic/code/prqp0064gb_a.pdf
footprint PRQP0064GB-A_N (QFP, 64-Leads, Body 14x14mm, Pitch 0.8mm, IPC Medium Density)
footprint PRQP0064GB-A_L (QFP, 64-Leads, Body 14x14mm, Pitch 0.8mm, IPC High Density)
footprint PRQP0064GB-A_M (QFP, 64-Leads, Body 14x14mm, Pitch 0.8mm, IPC Low Density)
pins: 1 PB6/AN6 (in), 2 PB7/AN7 (in), 3 AVCC (power), 4 X2 (out), 5 X1 (in), 6 VCC (power), 7 ~{RES} (in), 8 TEST (in), 9 VSS (power), 10 OSC2 (out), 11 OSC1 (in), 12 VCC (power), 13 P50/~{WKP0} (io), 14 P51/~{WKP1} (io), 15 P34 (io), 16 P35 (io), 17 P36 (io), 18 P37 (io), 19 P52/~{WKP2} (io), 20 P53/~{WKP3} (io), 21 P54/~{WKP4} (io), 22 P55/~{WKP5}/~{ADTRG} (io), 23 P10/TMOW (io), 24 P11/PWM (io), 25 P12 (io), 26 P56/SDA (io), 27 P57/SCL (io), 28 P74/TMRIV (io), 29 P75/TMCIV (io), 30 P76/TMOV (io), 31 P24 (io), 32 P63/FTIOD0 (io), 33 P62/FTIOC0 (io), 34 P61/FTIOB0 (io), 35 NMI (in), 36 P60/FTIOA0 (io), 37 P64/FTIOA1 (io), 38 P65/FTIOB1 (io), 39 P66/FTIOC1 (io), 40 P67/FTIOD1 (io), 41 P85 (io), 42 P86 (io), 43 P87 (io), 44 P20/SCK3 (io), 45 P21/RXD (io), 46 P22/TXD (io), 47 P23 (io), 48 P70/SCK3_2 (io), 49 P71/RXD_2 (io), 50 P72/TXD_2 (io), 51 P14/I~{RQ0} (io), 52 P15/I~{RQ1}/TMIB1 (io), 53 P16/~{IRQ2} (io), 54 P17/~{IRQ3}/TRGV (io), 55 P33 (io), 56 P32 (io), 57 P31 (io), 58 P30 (io), 59 PB3/AN3 (in), 60 PB2/AN2 (in), 61 PB1/AN1 (in), 62 PB0/AN0 (in), 63 PB4/AN4 (in), 64 PB5/AN5 (in)

## HD64336085XXXFP
designator U?
H8 Family 32/16-bit CISC, H8/300H Tiny, 40K ROM, 3K RAM, 4 to 18MHz, 3.0 to 3.6V, 64-Pin QFP; Published: 28-Aug-2009; DatasheetVersion: Rev.2.00, Sep-2005; PackageVersion: Sep-2005; PackageReference: PLQP0064KC-A; Publisher: Altium Limited; PackageDescription: 64-Pin Plastic Low Profile QFP, 10 x 10 x 1.45 mm Body, 0.5 mm Pitch; Code_JEITA: P-LQFP64-10x10-0.50; Code_IPC: SQFP50P1200X1200-64; ComponentLink1Description: Manufacturer Link; ComponentLink1URL: http://sg.renesas.com/fmwk.jsp?cnt=h8_family_landing.jsp&fp=/products/mpumcu/h8_family/; ComponentLink2Description: Datasheet; ComponentLink2URL: http://documentation.renesas.com/eng/products/mpumcu/rej09b0160_h836087.pdf; ComponentLink3Description: Packaging Specification; ComponentLink3URL: http://sg.renesas.com/media/products/common_info/package/pdf/ic/code/plqp0064kc_a.pdf
footprint PLQP0064KC-A_N (Shrink QFP, 64-Leads, Body 10x10mm, Pitch 0.5mm, IPC Medium Density)
footprint PLQP0064KC-A_L (Shrink QFP, 64-Leads, Body 10x10mm, Pitch 0.5mm, IPC High Density)
footprint PLQP0064KC-A_M (Shrink QFP, 64-Leads, Body 10x10mm, Pitch 0.5mm, IPC Low Density)
pins: 1 PB6/AN6 (in), 2 PB7/AN7 (in), 3 AVCC (power), 4 X2 (out), 5 X1 (in), 6 VCC (power), 7 ~{RES} (in), 8 TEST (in), 9 VSS (power), 10 OSC2 (out), 11 OSC1 (in), 12 VCC (power), 13 P50/~{WKP0} (io), 14 P51/~{WKP1} (io), 15 P34 (io), 16 P35 (io), 17 P36 (io), 18 P37 (io), 19 P52/~{WKP2} (io), 20 P53/~{WKP3} (io), 21 P54/~{WKP4} (io), 22 P55/~{WKP5}/~{ADTRG} (io), 23 P10/TMOW (io), 24 P11/PWM (io), 25 P12 (io), 26 P56/SDA (io), 27 P57/SCL (io), 28 P74/TMRIV (io), 29 P75/TMCIV (io), 30 P76/TMOV (io), 31 P24 (io), 32 P63/FTIOD0 (io), 33 P62/FTIOC0 (io), 34 P61/FTIOB0 (io), 35 NMI (in), 36 P60/FTIOA0 (io), 37 P64/FTIOA1 (io), 38 P65/FTIOB1 (io), 39 P66/FTIOC1 (io), 40 P67/FTIOD1 (io), 41 P85 (io), 42 P86 (io), 43 P87 (io), 44 P20/SCK3 (io), 45 P21/RXD (io), 46 P22/TXD (io), 47 P23 (io), 48 P70/SCK3_2 (io), 49 P71/RXD_2 (io), 50 P72/TXD_2 (io), 51 P14/I~{RQ0} (io), 52 P15/I~{RQ1}/TMIB1 (io), 53 P16/~{IRQ2} (io), 54 P17/~{IRQ3}/TRGV (io), 55 P33 (io), 56 P32 (io), 57 P31 (io), 58 P30 (io), 59 PB3/AN3 (in), 60 PB2/AN2 (in), 61 PB1/AN1 (in), 62 PB0/AN0 (in), 63 PB4/AN4 (in), 64 PB5/AN5 (in)

## HD64336085XXXH
designator U?
H8 Family 32/16-bit CISC, H8/300H Tiny, 40K ROM, 3K RAM, 4 to 18MHz, 3.0 to 3.6V, 64-Pin QFP; Published: 28-Aug-2009; DatasheetVersion: Rev.2.00, Sep-2005; PackageVersion: Sep-2005; PackageReference: PRQP0064GB-A; Publisher: Altium Limited; PackageDescription: 64-Pin Plastic Quad Flat Pack, 14 x 14 x 2.7 mm Body, 0.8 mm Pitch; Code_JEITA: P-QFP64-14x14-0.80; ComponentLink1Description: Manufacturer Link; ComponentLink1URL: http://sg.renesas.com/fmwk.jsp?cnt=h8_family_landing.jsp&fp=/products/mpumcu/h8_family/; ComponentLink2Description: Datasheet; ComponentLink2URL: http://documentation.renesas.com/eng/products/mpumcu/rej09b0160_h836087.pdf; ComponentLink3Description: Packaging Specification; ComponentLink3URL: http://sg.renesas.com/media/products/common_info/package/pdf/ic/code/prqp0064gb_a.pdf
footprint PRQP0064GB-A_N (QFP, 64-Leads, Body 14x14mm, Pitch 0.8mm, IPC Medium Density)
footprint PRQP0064GB-A_L (QFP, 64-Leads, Body 14x14mm, Pitch 0.8mm, IPC High Density)
footprint PRQP0064GB-A_M (QFP, 64-Leads, Body 14x14mm, Pitch 0.8mm, IPC Low Density)
pins: 1 PB6/AN6 (in), 2 PB7/AN7 (in), 3 AVCC (power), 4 X2 (out), 5 X1 (in), 6 VCC (power), 7 ~{RES} (in), 8 TEST (in), 9 VSS (power), 10 OSC2 (out), 11 OSC1 (in), 12 VCC (power), 13 P50/~{WKP0} (io), 14 P51/~{WKP1} (io), 15 P34 (io), 16 P35 (io), 17 P36 (io), 18 P37 (io), 19 P52/~{WKP2} (io), 20 P53/~{WKP3} (io), 21 P54/~{WKP4} (io), 22 P55/~{WKP5}/~{ADTRG} (io), 23 P10/TMOW (io), 24 P11/PWM (io), 25 P12 (io), 26 P56/SDA (io), 27 P57/SCL (io), 28 P74/TMRIV (io), 29 P75/TMCIV (io), 30 P76/TMOV (io), 31 P24 (io), 32 P63/FTIOD0 (io), 33 P62/FTIOC0 (io), 34 P61/FTIOB0 (io), 35 NMI (in), 36 P60/FTIOA0 (io), 37 P64/FTIOA1 (io), 38 P65/FTIOB1 (io), 39 P66/FTIOC1 (io), 40 P67/FTIOD1 (io), 41 P85 (io), 42 P86 (io), 43 P87 (io), 44 P20/SCK3 (io), 45 P21/RXD (io), 46 P22/TXD (io), 47 P23 (io), 48 P70/SCK3_2 (io), 49 P71/RXD_2 (io), 50 P72/TXD_2 (io), 51 P14/I~{RQ0} (io), 52 P15/I~{RQ1}/TMIB1 (io), 53 P16/~{IRQ2} (io), 54 P17/~{IRQ3}/TRGV (io), 55 P33 (io), 56 P32 (io), 57 P31 (io), 58 P30 (io), 59 PB3/AN3 (in), 60 PB2/AN2 (in), 61 PB1/AN1 (in), 62 PB0/AN0 (in), 63 PB4/AN4 (in), 64 PB5/AN5 (in)

## HD64336086XXXFP
designator U?
H8 Family 32/16-bit CISC, H8/300H Tiny, 48K ROM, 3K RAM, 4 to 18MHz, 3.0 to 3.6V, 64-Pin QFP; Published: 28-Aug-2009; DatasheetVersion: Rev.2.00, Sep-2005; PackageVersion: Sep-2005; PackageReference: PLQP0064KC-A; Publisher: Altium Limited; PackageDescription: 64-Pin Plastic Low Profile QFP, 10 x 10 x 1.45 mm Body, 0.5 mm Pitch; Code_JEITA: P-LQFP64-10x10-0.50; Code_IPC: SQFP50P1200X1200-64; ComponentLink1Description: Manufacturer Link; ComponentLink1URL: http://sg.renesas.com/fmwk.jsp?cnt=h8_family_landing.jsp&fp=/products/mpumcu/h8_family/; ComponentLink2Description: Datasheet; ComponentLink2URL: http://documentation.renesas.com/eng/products/mpumcu/rej09b0160_h836087.pdf; ComponentLink3Description: Packaging Specification; ComponentLink3URL: http://sg.renesas.com/media/products/common_info/package/pdf/ic/code/plqp0064kc_a.pdf
footprint PLQP0064KC-A_N (Shrink QFP, 64-Leads, Body 10x10mm, Pitch 0.5mm, IPC Medium Density)
footprint PLQP0064KC-A_L (Shrink QFP, 64-Leads, Body 10x10mm, Pitch 0.5mm, IPC High Density)
footprint PLQP0064KC-A_M (Shrink QFP, 64-Leads, Body 10x10mm, Pitch 0.5mm, IPC Low Density)
pins: 1 PB6/AN6 (in), 2 PB7/AN7 (in), 3 AVCC (power), 4 X2 (out), 5 X1 (in), 6 VCC (power), 7 ~{RES} (in), 8 TEST (in), 9 VSS (power), 10 OSC2 (out), 11 OSC1 (in), 12 VCC (power), 13 P50/~{WKP0} (io), 14 P51/~{WKP1} (io), 15 P34 (io), 16 P35 (io), 17 P36 (io), 18 P37 (io), 19 P52/~{WKP2} (io), 20 P53/~{WKP3} (io), 21 P54/~{WKP4} (io), 22 P55/~{WKP5}/~{ADTRG} (io), 23 P10/TMOW (io), 24 P11/PWM (io), 25 P12 (io), 26 P56/SDA (io), 27 P57/SCL (io), 28 P74/TMRIV (io), 29 P75/TMCIV (io), 30 P76/TMOV (io), 31 P24 (io), 32 P63/FTIOD0 (io), 33 P62/FTIOC0 (io), 34 P61/FTIOB0 (io), 35 NMI (in), 36 P60/FTIOA0 (io), 37 P64/FTIOA1 (io), 38 P65/FTIOB1 (io), 39 P66/FTIOC1 (io), 40 P67/FTIOD1 (io), 41 P85 (io), 42 P86 (io), 43 P87 (io), 44 P20/SCK3 (io), 45 P21/RXD (io), 46 P22/TXD (io), 47 P23 (io), 48 P70/SCK3_2 (io), 49 P71/RXD_2 (io), 50 P72/TXD_2 (io), 51 P14/I~{RQ0} (io), 52 P15/I~{RQ1}/TMIB1 (io), 53 P16/~{IRQ2} (io), 54 P17/~{IRQ3}/TRGV (io), 55 P33 (io), 56 P32 (io), 57 P31 (io), 58 P30 (io), 59 PB3/AN3 (in), 60 PB2/AN2 (in), 61 PB1/AN1 (in), 62 PB0/AN0 (in), 63 PB4/AN4 (in), 64 PB5/AN5 (in)

## HD64336086XXXH
designator U?
H8 Family 32/16-bit CISC, H8/300H Tiny, 48K ROM, 3K RAM, 4 to 18MHz, 3.0 to 3.6V, 64-Pin QFP; Published: 28-Aug-2009; DatasheetVersion: Rev.2.00, Sep-2005; PackageVersion: Sep-2005; PackageReference: PRQP0064GB-A; Publisher: Altium Limited; PackageDescription: 64-Pin Plastic Quad Flat Pack, 14 x 14 x 2.7 mm Body, 0.8 mm Pitch; Code_JEITA: P-QFP64-14x14-0.80; ComponentLink1Description: Manufacturer Link; ComponentLink1URL: http://sg.renesas.com/fmwk.jsp?cnt=h8_family_landing.jsp&fp=/products/mpumcu/h8_family/; ComponentLink2Description: Datasheet; ComponentLink2URL: http://documentation.renesas.com/eng/products/mpumcu/rej09b0160_h836087.pdf; ComponentLink3Description: Packaging Specification; ComponentLink3URL: http://sg.renesas.com/media/products/common_info/package/pdf/ic/code/prqp0064gb_a.pdf
footprint PRQP0064GB-A_N (QFP, 64-Leads, Body 14x14mm, Pitch 0.8mm, IPC Medium Density)
footprint PRQP0064GB-A_L (QFP, 64-Leads, Body 14x14mm, Pitch 0.8mm, IPC High Density)
footprint PRQP0064GB-A_M (QFP, 64-Leads, Body 14x14mm, Pitch 0.8mm, IPC Low Density)
pins: 1 PB6/AN6 (in), 2 PB7/AN7 (in), 3 AVCC (power), 4 X2 (out), 5 X1 (in), 6 VCC (power), 7 ~{RES} (in), 8 TEST (in), 9 VSS (power), 10 OSC2 (out), 11 OSC1 (in), 12 VCC (power), 13 P50/~{WKP0} (io), 14 P51/~{WKP1} (io), 15 P34 (io), 16 P35 (io), 17 P36 (io), 18 P37 (io), 19 P52/~{WKP2} (io), 20 P53/~{WKP3} (io), 21 P54/~{WKP4} (io), 22 P55/~{WKP5}/~{ADTRG} (io), 23 P10/TMOW (io), 24 P11/PWM (io), 25 P12 (io), 26 P56/SDA (io), 27 P57/SCL (io), 28 P74/TMRIV (io), 29 P75/TMCIV (io), 30 P76/TMOV (io), 31 P24 (io), 32 P63/FTIOD0 (io), 33 P62/FTIOC0 (io), 34 P61/FTIOB0 (io), 35 NMI (in), 36 P60/FTIOA0 (io), 37 P64/FTIOA1 (io), 38 P65/FTIOB1 (io), 39 P66/FTIOC1 (io), 40 P67/FTIOD1 (io), 41 P85 (io), 42 P86 (io), 43 P87 (io), 44 P20/SCK3 (io), 45 P21/RXD (io), 46 P22/TXD (io), 47 P23 (io), 48 P70/SCK3_2 (io), 49 P71/RXD_2 (io), 50 P72/TXD_2 (io), 51 P14/I~{RQ0} (io), 52 P15/I~{RQ1}/TMIB1 (io), 53 P16/~{IRQ2} (io), 54 P17/~{IRQ3}/TRGV (io), 55 P33 (io), 56 P32 (io), 57 P31 (io), 58 P30 (io), 59 PB3/AN3 (in), 60 PB2/AN2 (in), 61 PB1/AN1 (in), 62 PB0/AN0 (in), 63 PB4/AN4 (in), 64 PB5/AN5 (in)

## HD64336087XXXFP
designator U?
H8 Family 32/16-bit CISC, H8/300H Tiny, 56K ROM, 3K RAM, 4 to 18MHz, 3.0 to 3.6V, 64-Pin QFP; Published: 28-Aug-2009; DatasheetVersion: Rev.2.00, Sep-2005; PackageVersion: Sep-2005; PackageReference: PLQP0064KC-A; Publisher: Altium Limited; PackageDescription: 64-Pin Plastic Low Profile QFP, 10 x 10 x 1.45 mm Body, 0.5 mm Pitch; Code_JEITA: P-LQFP64-10x10-0.50; Code_IPC: SQFP50P1200X1200-64; ComponentLink1Description: Manufacturer Link; ComponentLink1URL: http://sg.renesas.com/fmwk.jsp?cnt=h8_family_landing.jsp&fp=/products/mpumcu/h8_family/; ComponentLink2Description: Datasheet; ComponentLink2URL: http://documentation.renesas.com/eng/products/mpumcu/rej09b0160_h836087.pdf; ComponentLink3Description: Packaging Specification; ComponentLink3URL: http://sg.renesas.com/media/products/common_info/package/pdf/ic/code/plqp0064kc_a.pdf
footprint PLQP0064KC-A_N (Shrink QFP, 64-Leads, Body 10x10mm, Pitch 0.5mm, IPC Medium Density)
footprint PLQP0064KC-A_L (Shrink QFP, 64-Leads, Body 10x10mm, Pitch 0.5mm, IPC High Density)
footprint PLQP0064KC-A_M (Shrink QFP, 64-Leads, Body 10x10mm, Pitch 0.5mm, IPC Low Density)
pins: 1 PB6/AN6 (in), 2 PB7/AN7 (in), 3 AVCC (power), 4 X2 (out), 5 X1 (in), 6 VCC (power), 7 ~{RES} (in), 8 TEST (in), 9 VSS (power), 10 OSC2 (out), 11 OSC1 (in), 12 VCC (power), 13 P50/~{WKP0} (io), 14 P51/~{WKP1} (io), 15 P34 (io), 16 P35 (io), 17 P36 (io), 18 P37 (io), 19 P52/~{WKP2} (io), 20 P53/~{WKP3} (io), 21 P54/~{WKP4} (io), 22 P55/~{WKP5}/~{ADTRG} (io), 23 P10/TMOW (io), 24 P11/PWM (io), 25 P12 (io), 26 P56/SDA (io), 27 P57/SCL (io), 28 P74/TMRIV (io), 29 P75/TMCIV (io), 30 P76/TMOV (io), 31 P24 (io), 32 P63/FTIOD0 (io), 33 P62/FTIOC0 (io), 34 P61/FTIOB0 (io), 35 NMI (in), 36 P60/FTIOA0 (io), 37 P64/FTIOA1 (io), 38 P65/FTIOB1 (io), 39 P66/FTIOC1 (io), 40 P67/FTIOD1 (io), 41 P85 (io), 42 P86 (io), 43 P87 (io), 44 P20/SCK3 (io), 45 P21/RXD (io), 46 P22/TXD (io), 47 P23 (io), 48 P70/SCK3_2 (io), 49 P71/RXD_2 (io), 50 P72/TXD_2 (io), 51 P14/I~{RQ0} (io), 52 P15/I~{RQ1}/TMIB1 (io), 53 P16/~{IRQ2} (io), 54 P17/~{IRQ3}/TRGV (io), 55 P33 (io), 56 P32 (io), 57 P31 (io), 58 P30 (io), 59 PB3/AN3 (in), 60 PB2/AN2 (in), 61 PB1/AN1 (in), 62 PB0/AN0 (in), 63 PB4/AN4 (in), 64 PB5/AN5 (in)

## HD64336087XXXH
designator U?
H8 Family 32/16-bit CISC, H8/300H Tiny, 56K ROM, 3K RAM, 4 to 18MHz, 3.0 to 3.6V, 64-Pin QFP; Published: 28-Aug-2009; DatasheetVersion: Rev.2.00, Sep-2005; PackageVersion: Sep-2005; PackageReference: PRQP0064GB-A; Publisher: Altium Limited; PackageDescription: 64-Pin Plastic Quad Flat Pack, 14 x 14 x 2.7 mm Body, 0.8 mm Pitch; Code_JEITA: P-QFP64-14x14-0.80; ComponentLink1Description: Manufacturer Link; ComponentLink1URL: http://sg.renesas.com/fmwk.jsp?cnt=h8_family_landing.jsp&fp=/products/mpumcu/h8_family/; ComponentLink2Description: Datasheet; ComponentLink2URL: http://documentation.renesas.com/eng/products/mpumcu/rej09b0160_h836087.pdf; ComponentLink3Description: Packaging Specification; ComponentLink3URL: http://sg.renesas.com/media/products/common_info/package/pdf/ic/code/prqp0064gb_a.pdf
footprint PRQP0064GB-A_N (QFP, 64-Leads, Body 14x14mm, Pitch 0.8mm, IPC Medium Density)
footprint PRQP0064GB-A_L (QFP, 64-Leads, Body 14x14mm, Pitch 0.8mm, IPC High Density)
footprint PRQP0064GB-A_M (QFP, 64-Leads, Body 14x14mm, Pitch 0.8mm, IPC Low Density)
pins: 1 PB6/AN6 (in), 2 PB7/AN7 (in), 3 AVCC (power), 4 X2 (out), 5 X1 (in), 6 VCC (power), 7 ~{RES} (in), 8 TEST (in), 9 VSS (power), 10 OSC2 (out), 11 OSC1 (in), 12 VCC (power), 13 P50/~{WKP0} (io), 14 P51/~{WKP1} (io), 15 P34 (io), 16 P35 (io), 17 P36 (io), 18 P37 (io), 19 P52/~{WKP2} (io), 20 P53/~{WKP3} (io), 21 P54/~{WKP4} (io), 22 P55/~{WKP5}/~{ADTRG} (io), 23 P10/TMOW (io), 24 P11/PWM (io), 25 P12 (io), 26 P56/SDA (io), 27 P57/SCL (io), 28 P74/TMRIV (io), 29 P75/TMCIV (io), 30 P76/TMOV (io), 31 P24 (io), 32 P63/FTIOD0 (io), 33 P62/FTIOC0 (io), 34 P61/FTIOB0 (io), 35 NMI (in), 36 P60/FTIOA0 (io), 37 P64/FTIOA1 (io), 38 P65/FTIOB1 (io), 39 P66/FTIOC1 (io), 40 P67/FTIOD1 (io), 41 P85 (io), 42 P86 (io), 43 P87 (io), 44 P20/SCK3 (io), 45 P21/RXD (io), 46 P22/TXD (io), 47 P23 (io), 48 P70/SCK3_2 (io), 49 P71/RXD_2 (io), 50 P72/TXD_2 (io), 51 P14/I~{RQ0} (io), 52 P15/I~{RQ1}/TMIB1 (io), 53 P16/~{IRQ2} (io), 54 P17/~{IRQ3}/TRGV (io), 55 P33 (io), 56 P32 (io), 57 P31 (io), 58 P30 (io), 59 PB3/AN3 (in), 60 PB2/AN2 (in), 61 PB1/AN1 (in), 62 PB0/AN0 (in), 63 PB4/AN4 (in), 64 PB5/AN5 (in)

## HD64336911GXXXFH
designator U?
H8 Family 32/16-bit CISC, H8/300H Tiny, 4K ROM, 256 RAM, 1 to 12MHz, 2.7 to 5.5V, 32-Pin QFP; Published: 28-Aug-2009; DatasheetVersion: Rev.3.00, Sep-2006; PackageVersion: Oct-2005; PackageReference: PLQP0032GB-A; Publisher: Altium Limited; PackageDescription: 32-Pin Plastic Low Profile QFP, 7 x 7 x 1.4 mm Body, 0.8 mm Pitch; Code_JEITA: P-LQFP32-7x7-0.80; ComponentLink1Description: Manufacturer Link; ComponentLink1URL: http://sg.renesas.com/fmwk.jsp?cnt=h8_family_landing.jsp&fp=/products/mpumcu/h8_family/; ComponentLink2Description: Datasheet; ComponentLink2URL: http://documentation.renesas.com/eng/products/mpumcu/rej09b0105_h836912.pdf; ComponentLink3Description: Packaging Specification; ComponentLink3URL: http://sg.renesas.com/media/products/common_info/package/pdf/ic/code/plqp0032gb_a.pdf
footprint PLQP0032GB-A_N (QFP, 32-Leads, Body 7x7mm, Pitch 0.8mm, IPC Medium Density)
footprint PLQP0032GB-A_L (QFP, 32-Leads, Body 7x7mm, Pitch 0.8mm, IPC High Density)
footprint PLQP0032GB-A_M (QFP, 32-Leads, Body 7x7mm, Pitch 0.8mm, IPC Low Density)
pins: 1 PB3/AN3/EXTU (in), 2 PB2/AN2/EXTD (in), 3 PB1/AN1 (in), 4 PB0/AN0 (in), 5 AVCC (power), 6 VCC (power), 7 ~{RES} (in), 8 TEST (in), 9 VSS (power), 10 PC1/OSC2/CLKOUT (io), 11 PC0/OSC1 (io), 12 VCL (power), 13 ~{NMI} (in), 14 P17/~{IRQ3}/~{TRGV} (io), 15 E10T_0 (io), 16 E10T_1 (io), 17 E10T_2 (io), 18 P57 (io), 19 P56 (io), 20 P14/~{IRQ0} (io), 21 P55/~{WKP5}/~{ADTRG} (io), 22 P20/SCK3 (io), 23 P21/RXD (io), 24 P22/TXD (io), 25 P80/FTCI (io), 26 P81/FTIOA (io), 27 P82/FTIOB (io), 28 P83/FTIOC (io), 29 P84/FTIOD (io), 30 P74/TMRIV (io), 31 P75/TMCIV (io), 32 P76/TMOV (io)

## HD64336911GXXXTP
designator U?
H8 Family 32/16-bit CISC, H8/300H Tiny, 4K ROM, 256 RAM, 1 to 12MHz, 2.7 to 5.5V, 32-Pin; Published: 28-Aug-2009; DatasheetVersion: Rev.3.00, Sep-2006; PackageVersion: Sep-2005; PackageReference: PRSP0032DC-A; Publisher: Altium Limited; PackageDescription: 32-Pin Plastic Small Outline Package, 20.8 x 11.3 mm Body, 1.27 mm Pitch; Code_JEITA: P-SOP32-11.3x20.45-1.27; ComponentLink1Description: Manufacturer Link; ComponentLink1URL: http://sg.renesas.com/fmwk.jsp?cnt=h8_family_landing.jsp&fp=/products/mpumcu/h8_family/; ComponentLink2Description: Datasheet; ComponentLink2URL: http://documentation.renesas.com/eng/products/mpumcu/rej09b0105_h836912.pdf; ComponentLink3Description: Packaging Specification; ComponentLink3URL: http://sg.renesas.com/media/products/common_info/package/pdf/ic/code/prsp0032dc_a.pdf
footprint PRSP0032DC-A_N (SOP, 32-Leads, Body 20.8x11.3mm, Pitch 1.27mm, IPC Medium Density)
footprint PRSP0032DC-A_L (SOP, 32-Leads, Body 20.8x11.3mm, Pitch 1.27mm, IPC High Density)
footprint PRSP0032DC-A_M (SOP, 32-Leads, Body 20.8x11.3mm, Pitch 1.27mm, IPC Low Density)
pins: 1 AVCC (power), 2 VCC (power), 3 ~{RES} (in), 4 TEST (in), 5 VSS (power), 6 PC1/OSC2/CLKOUT (io), 7 PC0/OSC1 (io), 8 VCL (power), 9 ~{NMI} (in), 10 P17/~{IRQ3}/~{TRGV} (io), 11 E10T_0 (io), 12 E10T_1 (io), 13 E10T_2 (io), 14 P57 (io), 15 P56 (io), 16 P14/~{IRQ0} (io), 17 P55/~{WKP5}/~{ADTRG} (io), 18 P20/SCK3 (io), 19 P21/RXD (io), 20 P22/TXD (io), 21 P80/FTCI (io), 22 P81/FTIOA (io), 23 P82/FTIOB (io), 24 P83/FTIOC (io), 25 P84/FTIOD (io), 26 P74/TMRIV (io), 27 P75/TMCIV (io), 28 P76/TMOV (io), 29 PB3/AN3/EXTU (in), 30 PB2/AN2/EXTD (in), 31 PB1/AN1 (in), 32 PB0/AN0 (in)

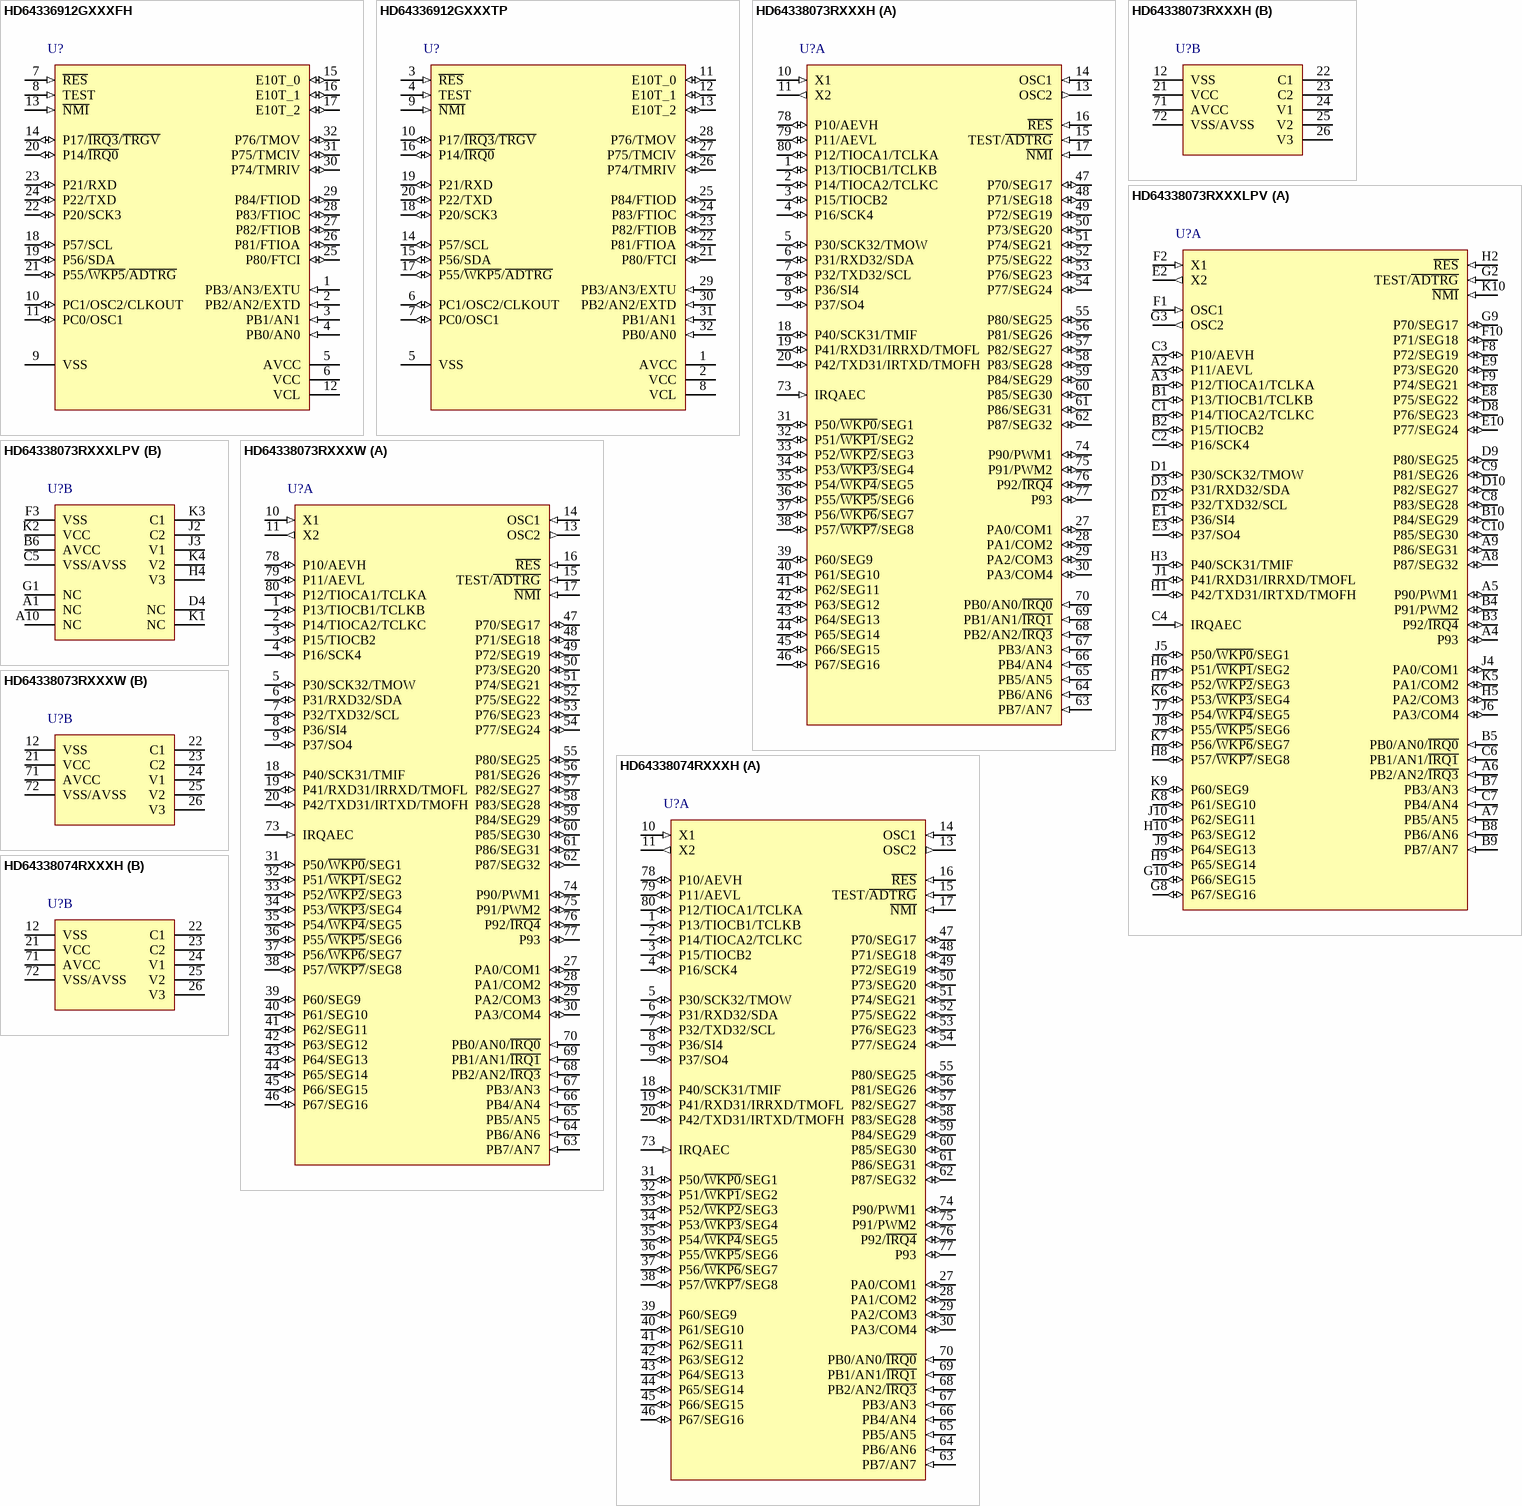
[diagram p75: symbols HD64336912GXXXFH to HD64338074RXXXH]

## HD64336912GXXXFH
designator U?
H8 Family 32/16-bit CISC, H8/300H Tiny, 8K ROM, 512 RAM, 1 to 12MHz, 2.7 to 5.5V, 32-Pin QFP; Published: 28-Aug-2009; DatasheetVersion: Rev.3.00, Sep-2006; PackageVersion: Oct-2005; PackageReference: PLQP0032GB-A; Publisher: Altium Limited; PackageDescription: 32-Pin Plastic Low Profile QFP, 7 x 7 x 1.4 mm Body, 0.8 mm Pitch; Code_JEITA: P-LQFP32-7x7-0.80; ComponentLink1Description: Manufacturer Link; ComponentLink1URL: http://sg.renesas.com/fmwk.jsp?cnt=h8_family_landing.jsp&fp=/products/mpumcu/h8_family/; ComponentLink2Description: Datasheet; ComponentLink2URL: http://documentation.renesas.com/eng/products/mpumcu/rej09b0105_h836912.pdf; ComponentLink3Description: Packaging Specification; ComponentLink3URL: http://sg.renesas.com/media/products/common_info/package/pdf/ic/code/plqp0032gb_a.pdf
footprint PLQP0032GB-A_N (QFP, 32-Leads, Body 7x7mm, Pitch 0.8mm, IPC Medium Density)
footprint PLQP0032GB-A_L (QFP, 32-Leads, Body 7x7mm, Pitch 0.8mm, IPC High Density)
footprint PLQP0032GB-A_M (QFP, 32-Leads, Body 7x7mm, Pitch 0.8mm, IPC Low Density)
pins: 1 PB3/AN3/EXTU (in), 2 PB2/AN2/EXTD (in), 3 PB1/AN1 (in), 4 PB0/AN0 (in), 5 AVCC (power), 6 VCC (power), 7 ~{RES} (in), 8 TEST (in), 9 VSS (power), 10 PC1/OSC2/CLKOUT (io), 11 PC0/OSC1 (io), 12 VCL (power), 13 ~{NMI} (in), 14 P17/~{IRQ3}/~{TRGV} (io), 15 E10T_0 (io), 16 E10T_1 (io), 17 E10T_2 (io), 18 P57/SCL (io), 19 P56/SDA (io), 20 P14/~{IRQ0} (io), 21 P55/~{WKP5}/~{ADTRG} (io), 22 P20/SCK3 (io), 23 P21/RXD (io), 24 P22/TXD (io), 25 P80/FTCI (io), 26 P81/FTIOA (io), 27 P82/FTIOB (io), 28 P83/FTIOC (io), 29 P84/FTIOD (io), 30 P74/TMRIV (io), 31 P75/TMCIV (io), 32 P76/TMOV (io)

## HD64336912GXXXTP
designator U?
H8 Family 32/16-bit CISC, H8/300H Tiny, 8K ROM, 512 RAM, 1 to 12MHz, 2.7 to 5.5V, 32-Pin; Published: 28-Aug-2009; DatasheetVersion: Rev.3.00, Sep-2006; PackageVersion: Sep-2005; PackageReference: PRSP0032DC-A; Publisher: Altium Limited; PackageDescription: 32-Pin Plastic Small Outline Package, 20.8 x 11.3 mm Body, 1.27 mm Pitch; Code_JEITA: P-SOP32-11.3x20.45-1.27; ComponentLink1Description: Manufacturer Link; ComponentLink1URL: http://sg.renesas.com/fmwk.jsp?cnt=h8_family_landing.jsp&fp=/products/mpumcu/h8_family/; ComponentLink2Description: Datasheet; ComponentLink2URL: http://documentation.renesas.com/eng/products/mpumcu/rej09b0105_h836912.pdf; ComponentLink3Description: Packaging Specification; ComponentLink3URL: http://sg.renesas.com/media/products/common_info/package/pdf/ic/code/prsp0032dc_a.pdf
footprint PRSP0032DC-A_N (SOP, 32-Leads, Body 20.8x11.3mm, Pitch 1.27mm, IPC Medium Density)
footprint PRSP0032DC-A_L (SOP, 32-Leads, Body 20.8x11.3mm, Pitch 1.27mm, IPC High Density)
footprint PRSP0032DC-A_M (SOP, 32-Leads, Body 20.8x11.3mm, Pitch 1.27mm, IPC Low Density)
pins: 1 AVCC (power), 2 VCC (power), 3 ~{RES} (in), 4 TEST (in), 5 VSS (power), 6 PC1/OSC2/CLKOUT (io), 7 PC0/OSC1 (io), 8 VCL (power), 9 ~{NMI} (in), 10 P17/~{IRQ3}/~{TRGV} (io), 11 E10T_0 (io), 12 E10T_1 (io), 13 E10T_2 (io), 14 P57/SCL (io), 15 P56/SDA (io), 16 P14/~{IRQ0} (io), 17 P55/~{WKP5}/~{ADTRG} (io), 18 P20/SCK3 (io), 19 P21/RXD (io), 20 P22/TXD (io), 21 P80/FTCI (io), 22 P81/FTIOA (io), 23 P82/FTIOB (io), 24 P83/FTIOC (io), 25 P84/FTIOD (io), 26 P74/TMRIV (io), 27 P75/TMCIV (io), 28 P76/TMOV (io), 29 PB3/AN3/EXTU (in), 30 PB2/AN2/EXTD (in), 31 PB1/AN1 (in), 32 PB0/AN0 (in)